# Altium integrated library Microchip PIC24F.IntLib: 529 symbols (part 23 of 32)
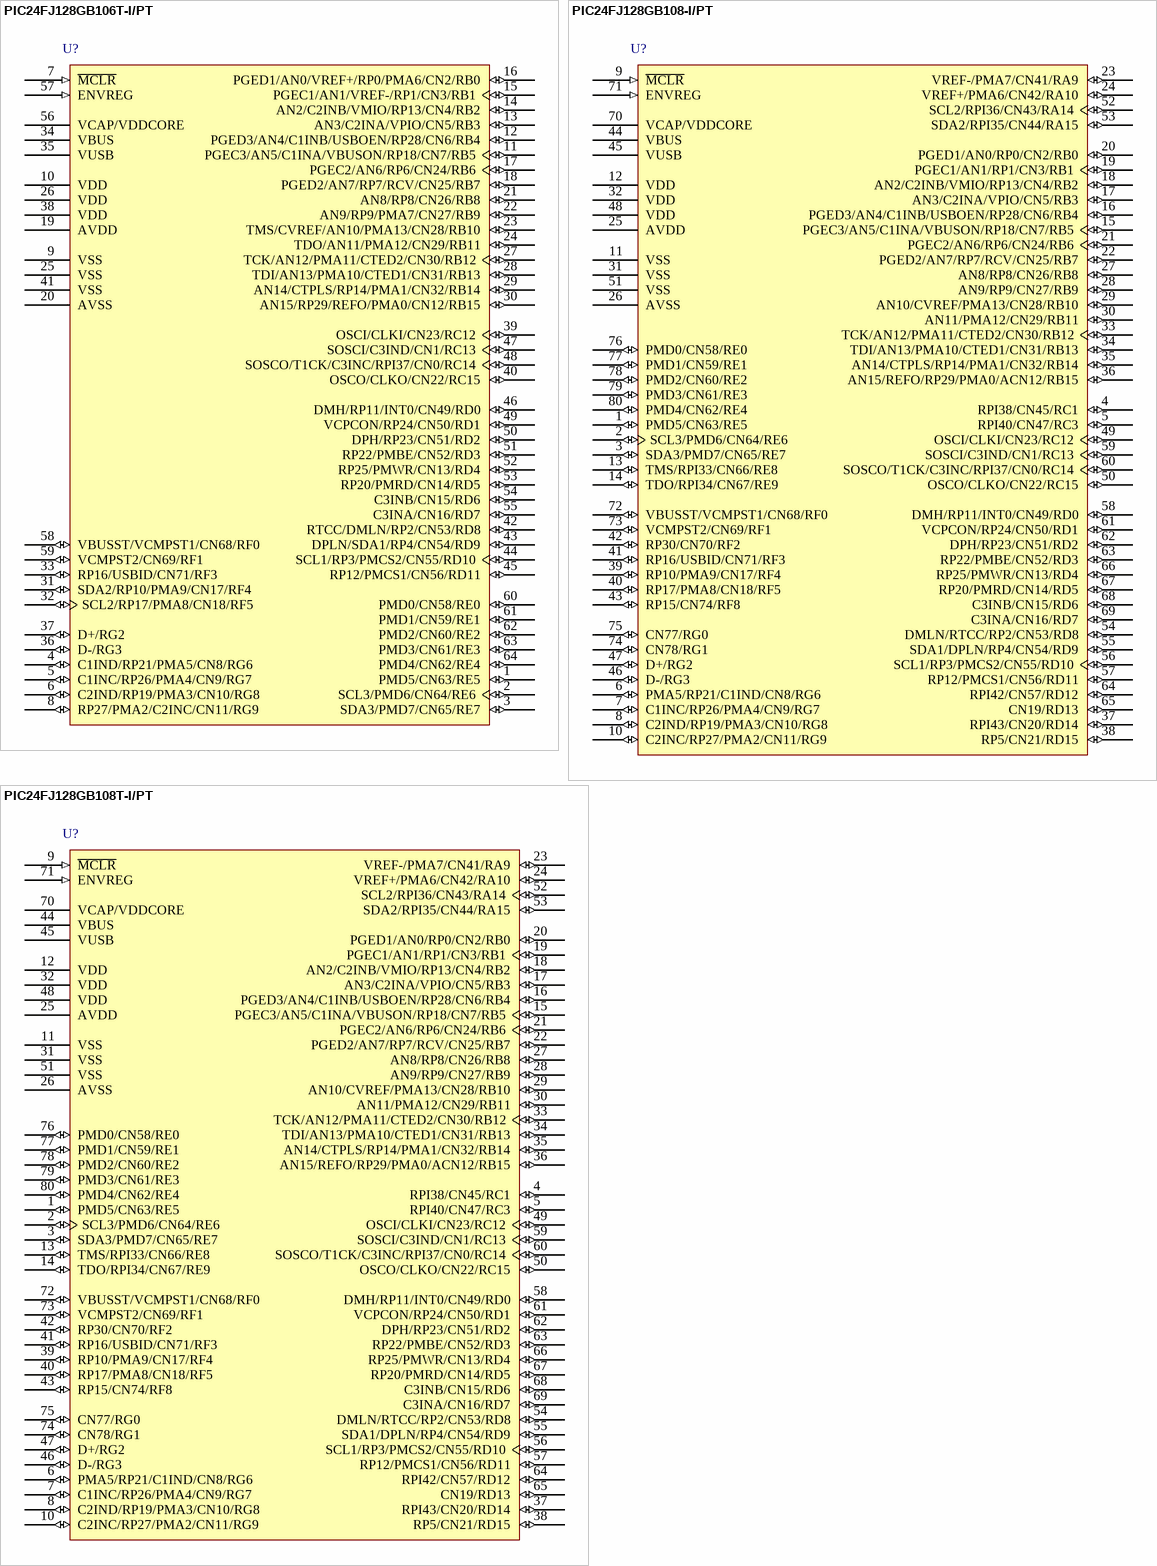
[diagram p144: symbols PIC24FJ128GB106T-I/PT to PIC24FJ128GB108T-I/PT]

## PIC24FJ128GB108-I/PT
designator U?
General Purpose 16-Bit Flash Microcontroller with USB On-The-Go, 128KB Flash, 16KB SRAM, 80-Pin TQFP, Industrial Temperature; Manufacturer: Microchip; PartNumber: PIC24FJ128GB108-I/PT; DatasheetVersion: revC, Dec-2009; PackageVersion: revBB, Aug-2009; PackageReference: TQFP-PT80; PackageDescription: 80-Lead Thin Plastic Quad Flat Pack (PT) - 12x12x1mm Body, 2.00mm [TQFP]; Supplier 1: Digi-Key; Supplier Part Number 1: PIC24FJ128GB108-I/PT-ND; Supplier 2: Farnell; Supplier Part Number 2: 1576851; Supplier 3: Farnell; Supplier Part Number 3: 1576851MPKG; Supplier 4: Newark; Supplier Part Number 4: 11N5809; Supplier 5: Newark; Supplier Part Number 5: 54M5099; Supplier 6: Mouser; Supplier Part Number 6: 579-PIC24128GB108IPT; Mounting Technology: Surface Mount; Code_JEDEC: MS-026; ComponentLink1Description: Manufacturer URL; ComponentLink1URL: http://www.microchip.com/; ComponentLink2Description: Datasheet; ComponentLink2URL: http://ww1.microchip.com/downloads/en/DeviceDoc/39897c.pdf; ComponentLink3Description: Package Specification; ComponentLink3URL: http://www.microchip.com/stellent/groups/techpub_sg/documents/packagingspec/en012702.pdf
footprint TQFP-PT80_N (Thin QFP, 80-Leads, Body 12x12mm, Pitch 0.5mm, IPC Medium Density)
footprint TQFP-PT80_L (Thin QFP, 80-Leads, Body 12x12mm, Pitch 0.5mm, IPC High Density)
footprint TQFP-PT80_M (Thin QFP, 80-Leads, Body 12x12mm, Pitch 0.5mm, IPC Low Density)
pins: 1 PMD5/CN63/RE5 (io), 2 SCL3/PMD6/CN64/RE6 (io), 3 SDA3/PMD7/CN65/RE7 (io), 4 RPI38/CN45/RC1 (io), 5 RPI40/CN47/RC3 (io), 6 PMA5/RP21/C1IND/CN8/RG6 (io), 7 C1INC/RP26/PMA4/CN9/RG7 (io), 8 C2IND/RP19/PMA3/CN10/RG8 (io), 9 ~{MCLR} (in), 10 C2INC/RP27/PMA2/CN11/RG9 (io), 11 VSS (power), 12 VDD (power), 13 TMS/RPI33/CN66/RE8 (io), 14 TDO/RPI34/CN67/RE9 (io), 15 PGEC3/AN5/C1INA/VBUSON/RP18/CN7/RB5 (io), 16 PGED3/AN4/C1INB/USBOEN/RP28/CN6/RB4 (io), 17 AN3/C2INA/VPIO/CN5/RB3 (io), 18 AN2/C2INB/VMIO/RP13/CN4/RB2 (io), 19 PGEC1/AN1/RP1/CN3/RB1 (io), 20 PGED1/AN0/RP0/CN2/RB0 (io), 21 PGEC2/AN6/RP6/CN24/RB6 (io), 22 PGED2/AN7/RP7/RCV/CN25/RB7 (io), 23 VREF-/PMA7/CN41/RA9 (io), 24 VREF+/PMA6/CN42/RA10 (io), 25 AVDD (power), 26 AVSS (power), 27 AN8/RP8/CN26/RB8 (io), 28 AN9/RP9/CN27/RB9 (io), 29 AN10/CVREF/PMA13/CN28/RB10 (io), 30 AN11/PMA12/CN29/RB11 (io), 31 VSS (power), 32 VDD (power), 33 TCK/AN12/PMA11/CTED2/CN30/RB12 (io), 34 TDI/AN13/PMA10/CTED1/CN31/RB13 (io), 35 AN14/CTPLS/RP14/PMA1/CN32/RB14 (io), 36 AN15/REFO/RP29/PMA0/ACN12/RB15 (io), 37 RPI43/CN20/RD14 (io), 38 RP5/CN21/RD15 (io), 39 RP10/PMA9/CN17/RF4 (io), 40 RP17/PMA8/CN18/RF5 (io), 41 RP16/USBID/CN71/RF3 (io), 42 RP30/CN70/RF2 (io), 43 RP15/CN74/RF8 (io), 44 VBUS (power), 45 VUSB (power), 46 D-/RG3 (io), 47 D+/RG2 (io), 48 VDD (power), 49 OSCI/CLKI/CN23/RC12 (io), 50 OSCO/CLKO/CN22/RC15 (io), 51 VSS (power), 52 SCL2/RPI36/CN43/RA14 (io), 53 SDA2/RPI35/CN44/RA15 (io), 54 DMLN/RTCC/RP2/CN53/RD8 (io), 55 SDA1/DPLN/RP4/CN54/RD9 (io), 56 SCL1/RP3/PMCS2/CN55/RD10 (io), 57 RP12/PMCS1/CN56/RD11 (io), 58 DMH/RP11/INT0/CN49/RD0 (io), 59 SOSCI/C3IND/CN1/RC13 (io), 60 SOSCO/T1CK/C3INC/RPI37/CN0/RC14 (io), 61 VCPCON/RP24/CN50/RD1 (io), 62 DPH/RP23/CN51/RD2 (io), 63 RP22/PMBE/CN52/RD3 (io), 64 RPI42/CN57/RD12 (io), 65 CN19/RD13 (io), 66 RP25/PMWR/CN13/RD4 (io), 67 RP20/PMRD/CN14/RD5 (io), 68 C3INB/CN15/RD6 (io), 69 C3INA/CN16/RD7 (io), 70 VCAP/VDDCORE (power), 71 ENVREG (in), 72 VBUSST/VCMPST1/CN68/RF0 (io), 73 VCMPST2/CN69/RF1 (io), 74 CN78/RG1 (io), 75 CN77/RG0 (io), 76 PMD0/CN58/RE0 (io), 77 PMD1/CN59/RE1 (io), 78 PMD2/CN60/RE2 (io), 79 PMD3/CN61/RE3 (io), 80 PMD4/CN62/RE4 (io)

## PIC24FJ128GB108T-I/PT
designator U?
General Purpose 16-Bit Flash Microcontroller with USB On-The-Go, 128KB Flash, 16KB SRAM, 80-Pin TQFP, Industrial Temperature, Tape and Reel; Manufacturer: Microchip; PartNumber: PIC24FJ128GB108T-I/PT; DatasheetVersion: revC, Dec-2009; PackageVersion: revBB, Aug-2009; PackageReference: TQFP-PT80; PackageDescription: 80-Lead Thin Plastic Quad Flat Pack (PT) - 12x12x1mm Body, 2.00mm [TQFP]; Supplier 1: Digi-Key; Supplier Part Number 1: PIC24FJ128GB108T-I/PTTR-ND; Supplier 2: Mouser; Supplier Part Number 2: 579-PIC2128GB108TIPT; Mounting Technology: Surface Mount; Code_JEDEC: MS-026; ComponentLink1Description: Manufacturer URL; ComponentLink1URL: http://www.microchip.com/; ComponentLink2Description: Datasheet; ComponentLink2URL: http://ww1.microchip.com/downloads/en/DeviceDoc/39897c.pdf; ComponentLink3Description: Package Specification; ComponentLink3URL: http://www.microchip.com/stellent/groups/techpub_sg/documents/packagingspec/en012702.pdf
footprint TQFP-PT80_N (Thin QFP, 80-Leads, Body 12x12mm, Pitch 0.5mm, IPC Medium Density)
footprint TQFP-PT80_L (Thin QFP, 80-Leads, Body 12x12mm, Pitch 0.5mm, IPC High Density)
footprint TQFP-PT80_M (Thin QFP, 80-Leads, Body 12x12mm, Pitch 0.5mm, IPC Low Density)
pins: 1 PMD5/CN63/RE5 (io), 2 SCL3/PMD6/CN64/RE6 (io), 3 SDA3/PMD7/CN65/RE7 (io), 4 RPI38/CN45/RC1 (io), 5 RPI40/CN47/RC3 (io), 6 PMA5/RP21/C1IND/CN8/RG6 (io), 7 C1INC/RP26/PMA4/CN9/RG7 (io), 8 C2IND/RP19/PMA3/CN10/RG8 (io), 9 ~{MCLR} (in), 10 C2INC/RP27/PMA2/CN11/RG9 (io), 11 VSS (power), 12 VDD (power), 13 TMS/RPI33/CN66/RE8 (io), 14 TDO/RPI34/CN67/RE9 (io), 15 PGEC3/AN5/C1INA/VBUSON/RP18/CN7/RB5 (io), 16 PGED3/AN4/C1INB/USBOEN/RP28/CN6/RB4 (io), 17 AN3/C2INA/VPIO/CN5/RB3 (io), 18 AN2/C2INB/VMIO/RP13/CN4/RB2 (io), 19 PGEC1/AN1/RP1/CN3/RB1 (io), 20 PGED1/AN0/RP0/CN2/RB0 (io), 21 PGEC2/AN6/RP6/CN24/RB6 (io), 22 PGED2/AN7/RP7/RCV/CN25/RB7 (io), 23 VREF-/PMA7/CN41/RA9 (io), 24 VREF+/PMA6/CN42/RA10 (io), 25 AVDD (power), 26 AVSS (power), 27 AN8/RP8/CN26/RB8 (io), 28 AN9/RP9/CN27/RB9 (io), 29 AN10/CVREF/PMA13/CN28/RB10 (io), 30 AN11/PMA12/CN29/RB11 (io), 31 VSS (power), 32 VDD (power), 33 TCK/AN12/PMA11/CTED2/CN30/RB12 (io), 34 TDI/AN13/PMA10/CTED1/CN31/RB13 (io), 35 AN14/CTPLS/RP14/PMA1/CN32/RB14 (io), 36 AN15/REFO/RP29/PMA0/ACN12/RB15 (io), 37 RPI43/CN20/RD14 (io), 38 RP5/CN21/RD15 (io), 39 RP10/PMA9/CN17/RF4 (io), 40 RP17/PMA8/CN18/RF5 (io), 41 RP16/USBID/CN71/RF3 (io), 42 RP30/CN70/RF2 (io), 43 RP15/CN74/RF8 (io), 44 VBUS (power), 45 VUSB (power), 46 D-/RG3 (io), 47 D+/RG2 (io), 48 VDD (power), 49 OSCI/CLKI/CN23/RC12 (io), 50 OSCO/CLKO/CN22/RC15 (io), 51 VSS (power), 52 SCL2/RPI36/CN43/RA14 (io), 53 SDA2/RPI35/CN44/RA15 (io), 54 DMLN/RTCC/RP2/CN53/RD8 (io), 55 SDA1/DPLN/RP4/CN54/RD9 (io), 56 SCL1/RP3/PMCS2/CN55/RD10 (io), 57 RP12/PMCS1/CN56/RD11 (io), 58 DMH/RP11/INT0/CN49/RD0 (io), 59 SOSCI/C3IND/CN1/RC13 (io), 60 SOSCO/T1CK/C3INC/RPI37/CN0/RC14 (io), 61 VCPCON/RP24/CN50/RD1 (io), 62 DPH/RP23/CN51/RD2 (io), 63 RP22/PMBE/CN52/RD3 (io), 64 RPI42/CN57/RD12 (io), 65 CN19/RD13 (io), 66 RP25/PMWR/CN13/RD4 (io), 67 RP20/PMRD/CN14/RD5 (io), 68 C3INB/CN15/RD6 (io), 69 C3INA/CN16/RD7 (io), 70 VCAP/VDDCORE (power), 71 ENVREG (in), 72 VBUSST/VCMPST1/CN68/RF0 (io), 73 VCMPST2/CN69/RF1 (io), 74 CN78/RG1 (io), 75 CN77/RG0 (io), 76 PMD0/CN58/RE0 (io), 77 PMD1/CN59/RE1 (io), 78 PMD2/CN60/RE2 (io), 79 PMD3/CN61/RE3 (io), 80 PMD4/CN62/RE4 (io)

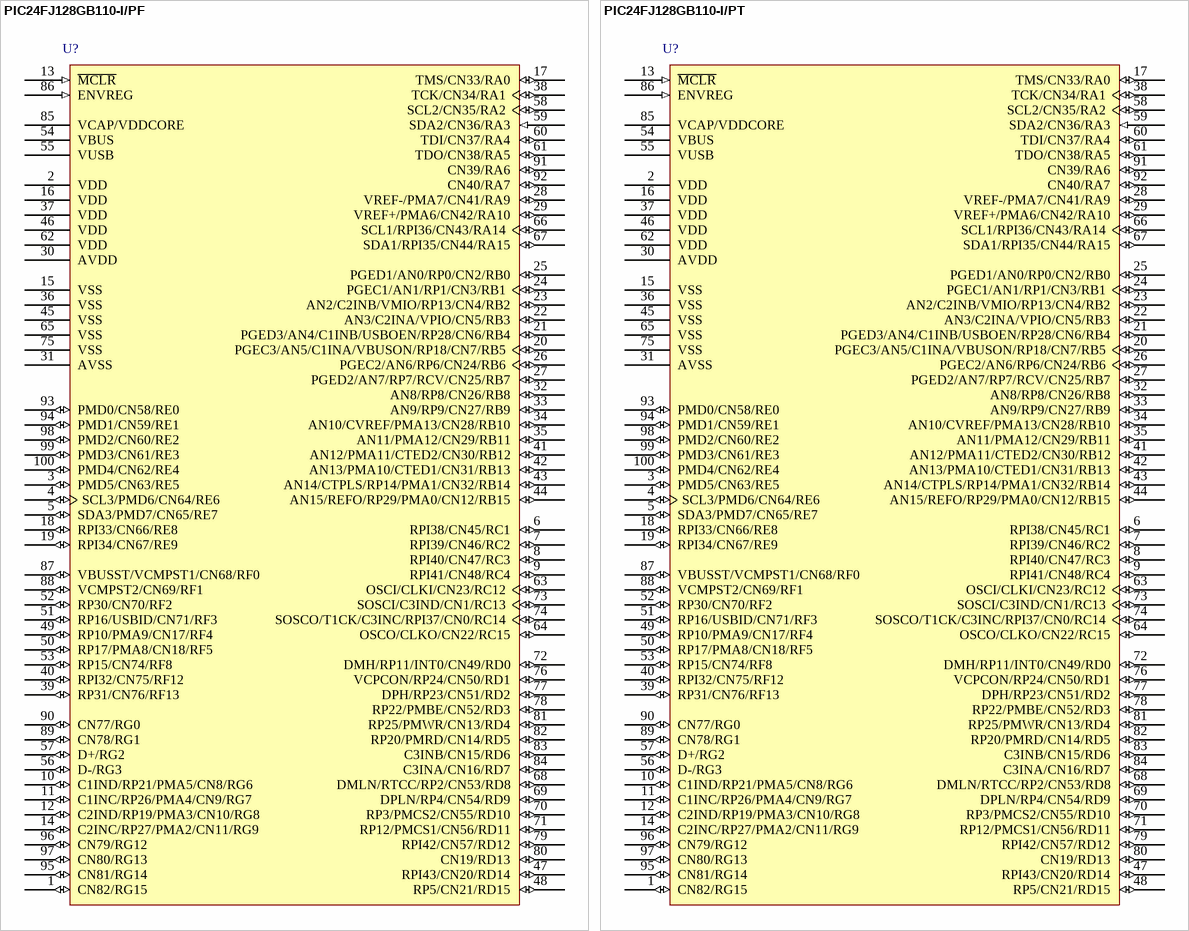
[diagram p81: symbols PIC24FJ128GB110-I/PF to PIC24FJ128GB110-I/PT]

## PIC24FJ128GB110-I/PF
designator U?
General Purpose 16-Bit Flash Microcontroller with USB On-The-Go, 128KB Flash, 16KB SRAM, 100-Pin TQFP (14x14x1 mm), Industrial Temperature; Manufacturer: Microchip; PartNumber: PIC24FJ128GB110-I/PF; DatasheetVersion: revC, Dec-2009; PackageVersion: revBB, Aug-2009; PackageReference: TQFP-PF100; PackageDescription: 100-Lead Thin Plastic Quad Flat Pack (PF) - 14x14x1mm Body, 2.00mm [TQFP]; Supplier 1: Digi-Key; Supplier Part Number 1: PIC24FJ128GB110-I/PF-ND; Supplier 2: Farnell; Supplier Part Number 2: 1576852MPKG; Supplier 3: Farnell; Supplier Part Number 3: 1576852; Supplier 4: Newark; Supplier Part Number 4: 11N5810; Supplier 5: Mouser; Supplier Part Number 5: 579-PIC24128GB110IPF; Mounting Technology: Surface Mount; ComponentLink1Description: Manufacturer URL; ComponentLink1URL: http://www.microchip.com/; ComponentLink2Description: Datasheet; ComponentLink2URL: http://ww1.microchip.com/downloads/en/DeviceDoc/39897c.pdf; ComponentLink3Description: Package Specification; ComponentLink3URL: http://www.microchip.com/stellent/groups/techpub_sg/documents/packagingspec/en012702.pdf
footprint TQFP-PF100_N (Thin QFP, 100-Leads, Body 14x14mm, Pitch 0.5mm, IPC Medium Density)
footprint TQFP-PF100_L (Thin QFP, 100-Leads, Body 14x14mm, Pitch 0.5mm, IPC High Density)
footprint TQFP-PF100_M (Thin QFP, 100-Leads, Body 14x14mm, Pitch 0.5mm, IPC Low Density)
pins: 1 CN82/RG15 (io), 2 VDD (power), 3 PMD5/CN63/RE5 (io), 4 SCL3/PMD6/CN64/RE6 (io), 5 SDA3/PMD7/CN65/RE7 (io), 6 RPI38/CN45/RC1 (io), 7 RPI39/CN46/RC2 (io), 8 RPI40/CN47/RC3 (io), 9 RPI41/CN48/RC4 (io), 10 C1IND/RP21/PMA5/CN8/RG6 (io), 11 C1INC/RP26/PMA4/CN9/RG7 (io), 12 C2IND/RP19/PMA3/CN10/RG8 (io), 13 ~{MCLR} (in), 14 C2INC/RP27/PMA2/CN11/RG9 (io), 15 VSS (power), 16 VDD (power), 17 TMS/CN33/RA0 (io), 18 RPI33/CN66/RE8 (io), 19 RPI34/CN67/RE9 (io), 20 PGEC3/AN5/C1INA/VBUSON/RP18/CN7/RB5 (io), 21 PGED3/AN4/C1INB/USBOEN/RP28/CN6/RB4 (io), 22 AN3/C2INA/VPIO/CN5/RB3 (io), 23 AN2/C2INB/VMIO/RP13/CN4/RB2 (io), 24 PGEC1/AN1/RP1/CN3/RB1 (io), 25 PGED1/AN0/RP0/CN2/RB0 (io), 26 PGEC2/AN6/RP6/CN24/RB6 (io), 27 PGED2/AN7/RP7/RCV/CN25/RB7 (io), 28 VREF-/PMA7/CN41/RA9 (io), 29 VREF+/PMA6/CN42/RA10 (io), 30 AVDD (power), 31 AVSS (power), 32 AN8/RP8/CN26/RB8 (io), 33 AN9/RP9/CN27/RB9 (io), 34 AN10/CVREF/PMA13/CN28/RB10 (io), 35 AN11/PMA12/CN29/RB11 (io), 36 VSS (power), 37 VDD (power), 38 TCK/CN34/RA1 (io), 39 RP31/CN76/RF13 (io), 40 RPI32/CN75/RF12 (io), 41 AN12/PMA11/CTED2/CN30/RB12 (io), 42 AN13/PMA10/CTED1/CN31/RB13 (io), 43 AN14/CTPLS/RP14/PMA1/CN32/RB14 (io), 44 AN15/REFO/RP29/PMA0/CN12/RB15 (io), 45 VSS (power), 46 VDD (power), 47 RPI43/CN20/RD14 (io), 48 RP5/CN21/RD15 (io), 49 RP10/PMA9/CN17/RF4 (io), 50 RP17/PMA8/CN18/RF5 (io), 51 RP16/USBID/CN71/RF3 (io), 52 RP30/CN70/RF2 (io), 53 RP15/CN74/RF8 (io), 54 VBUS (power), 55 VUSB (power), 56 D-/RG3 (io), 57 D+/RG2 (io), 58 SCL2/CN35/RA2 (io), 59 SDA2/CN36/RA3 (in), 60 TDI/CN37/RA4 (io), 61 TDO/CN38/RA5 (io), 62 VDD (power), 63 OSCI/CLKI/CN23/RC12 (io), 64 OSCO/CLKO/CN22/RC15 (io), 65 VSS (power), 66 SCL1/RPI36/CN43/RA14 (io), 67 SDA1/RPI35/CN44/RA15 (io), 68 DMLN/RTCC/RP2/CN53/RD8 (io), 69 DPLN/RP4/CN54/RD9 (io), 70 RP3/PMCS2/CN55/RD10 (io), 71 RP12/PMCS1/CN56/RD11 (io), 72 DMH/RP11/INT0/CN49/RD0 (io), 73 SOSCI/C3IND/CN1/RC13 (io), 74 SOSCO/T1CK/C3INC/RPI37/CN0/RC14 (io), 75 VSS (power), 76 VCPCON/RP24/CN50/RD1 (io), 77 DPH/RP23/CN51/RD2 (io), 78 RP22/PMBE/CN52/RD3 (io), 79 RPI42/CN57/RD12 (io), 80 CN19/RD13 (io), 81 RP25/PMWR/CN13/RD4 (io), 82 RP20/PMRD/CN14/RD5 (io), 83 C3INB/CN15/RD6 (io), 84 C3INA/CN16/RD7 (io), 85 VCAP/VDDCORE (power), 86 ENVREG (in), 87 VBUSST/VCMPST1/CN68/RF0 (io), 88 VCMPST2/CN69/RF1 (io), 89 CN78/RG1 (io), 90 CN77/RG0 (io), 91 CN39/RA6 (io), 92 CN40/RA7 (io), 93 PMD0/CN58/RE0 (io), 94 PMD1/CN59/RE1 (io), 95 CN81/RG14 (io), 96 CN79/RG12 (io), 97 CN80/RG13 (io), 98 PMD2/CN60/RE2 (io), 99 PMD3/CN61/RE3 (io), 100 PMD4/CN62/RE4 (io)

## PIC24FJ128GB110-I/PT
designator U?
General Purpose 16-Bit Flash Microcontroller with USB On-The-Go, 128KB Flash, 16KB SRAM, 100-Pin TQFP (12x12x1 mm), Industrial Temperature; Manufacturer: Microchip; PartNumber: PIC24FJ128GB110-I/PT; DatasheetVersion: revC, Dec-2009; PackageVersion: revBB, Aug-2009; PackageReference: TQFP-PT100; PackageDescription: 100-Lead Plastic Thin Quad Flatpack (PT) - 12x12x1mm Body, 2.00mm [TQFP]; Supplier 1: Digi-Key; Supplier Part Number 1: PIC24FJ128GB110-I/PT-ND; Supplier 2: Farnell; Supplier Part Number 2: 1576853; Supplier 3: Newark; Supplier Part Number 3: 54M5102; Supplier 4: Mouser; Supplier Part Number 4: 579-PIC24128GB110IPT; Mounting Technology: Surface Mount; ComponentLink1Description: Manufacturer URL; ComponentLink1URL: http://www.microchip.com/; ComponentLink2Description: Datasheet; ComponentLink2URL: http://ww1.microchip.com/downloads/en/DeviceDoc/39897c.pdf; ComponentLink3Description: Package Specification; ComponentLink3URL: http://www.microchip.com/stellent/groups/techpub_sg/documents/packagingspec/en012702.pdf
footprint TQFP-PT100_N (Thin QFP, 100-Leads, Body 12x12mm, Pitch 0.4mm, IPC Medium Density)
footprint TQFP-PT100_L (Thin QFP, 100-Leads, Body 12x12mm, Pitch 0.4mm, IPC High Density)
footprint TQFP-PT100_M (Thin QFP, 100-Leads, Body 12x12mm, Pitch 0.4mm, IPC Low Density)
pins: 1 CN82/RG15 (io), 2 VDD (power), 3 PMD5/CN63/RE5 (io), 4 SCL3/PMD6/CN64/RE6 (io), 5 SDA3/PMD7/CN65/RE7 (io), 6 RPI38/CN45/RC1 (io), 7 RPI39/CN46/RC2 (io), 8 RPI40/CN47/RC3 (io), 9 RPI41/CN48/RC4 (io), 10 C1IND/RP21/PMA5/CN8/RG6 (io), 11 C1INC/RP26/PMA4/CN9/RG7 (io), 12 C2IND/RP19/PMA3/CN10/RG8 (io), 13 ~{MCLR} (in), 14 C2INC/RP27/PMA2/CN11/RG9 (io), 15 VSS (power), 16 VDD (power), 17 TMS/CN33/RA0 (io), 18 RPI33/CN66/RE8 (io), 19 RPI34/CN67/RE9 (io), 20 PGEC3/AN5/C1INA/VBUSON/RP18/CN7/RB5 (io), 21 PGED3/AN4/C1INB/USBOEN/RP28/CN6/RB4 (io), 22 AN3/C2INA/VPIO/CN5/RB3 (io), 23 AN2/C2INB/VMIO/RP13/CN4/RB2 (io), 24 PGEC1/AN1/RP1/CN3/RB1 (io), 25 PGED1/AN0/RP0/CN2/RB0 (io), 26 PGEC2/AN6/RP6/CN24/RB6 (io), 27 PGED2/AN7/RP7/RCV/CN25/RB7 (io), 28 VREF-/PMA7/CN41/RA9 (io), 29 VREF+/PMA6/CN42/RA10 (io), 30 AVDD (power), 31 AVSS (power), 32 AN8/RP8/CN26/RB8 (io), 33 AN9/RP9/CN27/RB9 (io), 34 AN10/CVREF/PMA13/CN28/RB10 (io), 35 AN11/PMA12/CN29/RB11 (io), 36 VSS (power), 37 VDD (power), 38 TCK/CN34/RA1 (io), 39 RP31/CN76/RF13 (io), 40 RPI32/CN75/RF12 (io), 41 AN12/PMA11/CTED2/CN30/RB12 (io), 42 AN13/PMA10/CTED1/CN31/RB13 (io), 43 AN14/CTPLS/RP14/PMA1/CN32/RB14 (io), 44 AN15/REFO/RP29/PMA0/CN12/RB15 (io), 45 VSS (power), 46 VDD (power), 47 RPI43/CN20/RD14 (io), 48 RP5/CN21/RD15 (io), 49 RP10/PMA9/CN17/RF4 (io), 50 RP17/PMA8/CN18/RF5 (io), 51 RP16/USBID/CN71/RF3 (io), 52 RP30/CN70/RF2 (io), 53 RP15/CN74/RF8 (io), 54 VBUS (power), 55 VUSB (power), 56 D-/RG3 (io), 57 D+/RG2 (io), 58 SCL2/CN35/RA2 (io), 59 SDA2/CN36/RA3 (in), 60 TDI/CN37/RA4 (io), 61 TDO/CN38/RA5 (io), 62 VDD (power), 63 OSCI/CLKI/CN23/RC12 (io), 64 OSCO/CLKO/CN22/RC15 (io), 65 VSS (power), 66 SCL1/RPI36/CN43/RA14 (io), 67 SDA1/RPI35/CN44/RA15 (io), 68 DMLN/RTCC/RP2/CN53/RD8 (io), 69 DPLN/RP4/CN54/RD9 (io), 70 RP3/PMCS2/CN55/RD10 (io), 71 RP12/PMCS1/CN56/RD11 (io), 72 DMH/RP11/INT0/CN49/RD0 (io), 73 SOSCI/C3IND/CN1/RC13 (io), 74 SOSCO/T1CK/C3INC/RPI37/CN0/RC14 (io), 75 VSS (power), 76 VCPCON/RP24/CN50/RD1 (io), 77 DPH/RP23/CN51/RD2 (io), 78 RP22/PMBE/CN52/RD3 (io), 79 RPI42/CN57/RD12 (io), 80 CN19/RD13 (io), 81 RP25/PMWR/CN13/RD4 (io), 82 RP20/PMRD/CN14/RD5 (io), 83 C3INB/CN15/RD6 (io), 84 C3INA/CN16/RD7 (io), 85 VCAP/VDDCORE (power), 86 ENVREG (in), 87 VBUSST/VCMPST1/CN68/RF0 (io), 88 VCMPST2/CN69/RF1 (io), 89 CN78/RG1 (io), 90 CN77/RG0 (io), 91 CN39/RA6 (io), 92 CN40/RA7 (io), 93 PMD0/CN58/RE0 (io), 94 PMD1/CN59/RE1 (io), 95 CN81/RG14 (io), 96 CN79/RG12 (io), 97 CN80/RG13 (io), 98 PMD2/CN60/RE2 (io), 99 PMD3/CN61/RE3 (io), 100 PMD4/CN62/RE4 (io)

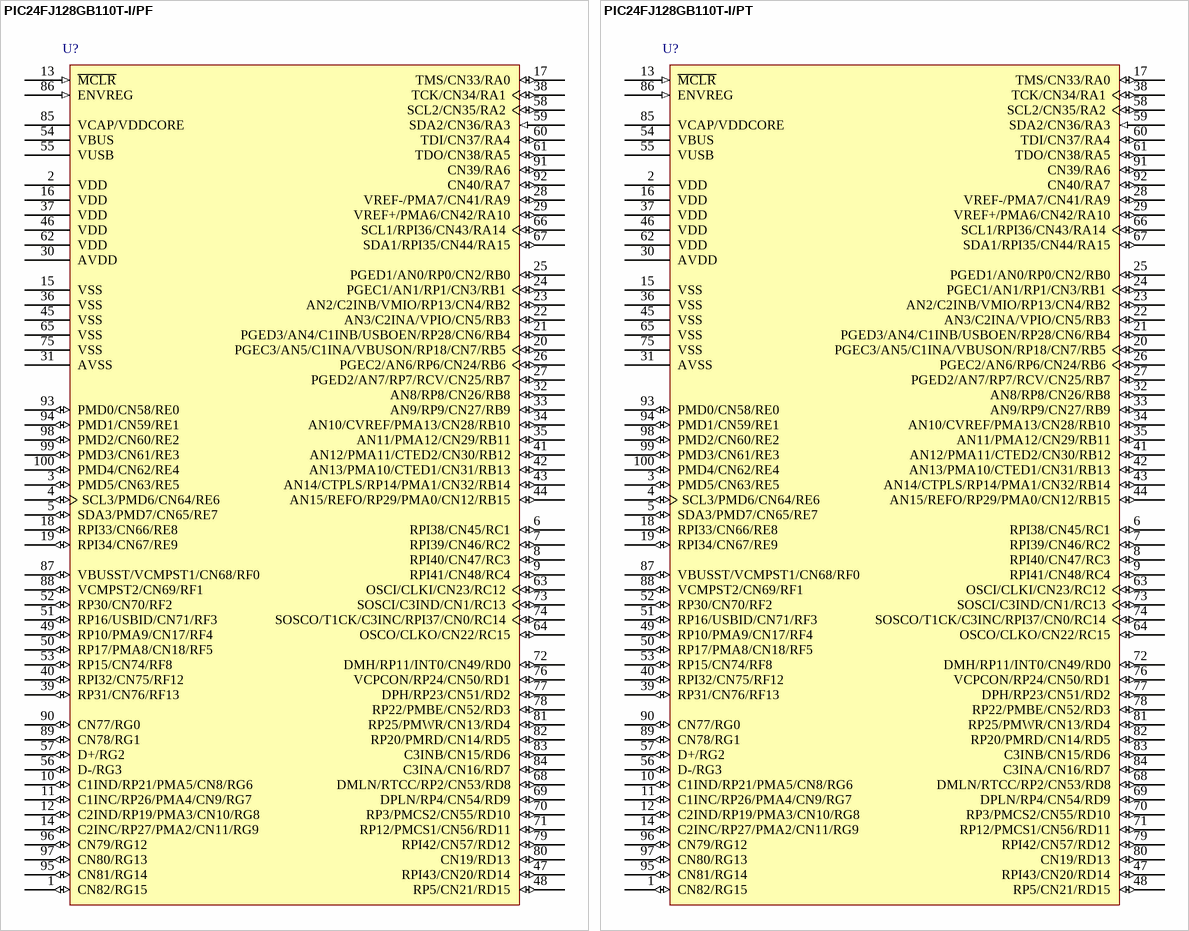
[diagram p82: symbols PIC24FJ128GB110T-I/PF to PIC24FJ128GB110T-I/PT]

## PIC24FJ128GB110T-I/PF
designator U?
General Purpose 16-Bit Flash Microcontroller with USB On-The-Go, 128KB Flash, 16KB SRAM, 100-Pin TQFP (14x14x1 mm), Industrial Temperature, Tape and Reel; Manufacturer: Microchip; PartNumber: PIC24FJ128GB110T-I/PF; DatasheetVersion: revC, Dec-2009; PackageVersion: revBB, Aug-2009; PackageReference: TQFP-PF100; PackageDescription: 100-Lead Thin Plastic Quad Flat Pack (PF) - 14x14x1mm Body, 2.00mm [TQFP]; Supplier 1: Digi-Key; Supplier Part Number 1: PIC24FJ128GB110T-I/PFTR-ND; Supplier 2: Mouser; Supplier Part Number 2: 579-PIC2128GB110TIPF; Mounting Technology: Surface Mount; ComponentLink1Description: Manufacturer URL; ComponentLink1URL: http://www.microchip.com/; ComponentLink2Description: Datasheet; ComponentLink2URL: http://ww1.microchip.com/downloads/en/DeviceDoc/39897c.pdf; ComponentLink3Description: Package Specification; ComponentLink3URL: http://www.microchip.com/stellent/groups/techpub_sg/documents/packagingspec/en012702.pdf
footprint TQFP-PF100_N (Thin QFP, 100-Leads, Body 14x14mm, Pitch 0.5mm, IPC Medium Density)
footprint TQFP-PF100_L (Thin QFP, 100-Leads, Body 14x14mm, Pitch 0.5mm, IPC High Density)
footprint TQFP-PF100_M (Thin QFP, 100-Leads, Body 14x14mm, Pitch 0.5mm, IPC Low Density)
pins: 1 CN82/RG15 (io), 2 VDD (power), 3 PMD5/CN63/RE5 (io), 4 SCL3/PMD6/CN64/RE6 (io), 5 SDA3/PMD7/CN65/RE7 (io), 6 RPI38/CN45/RC1 (io), 7 RPI39/CN46/RC2 (io), 8 RPI40/CN47/RC3 (io), 9 RPI41/CN48/RC4 (io), 10 C1IND/RP21/PMA5/CN8/RG6 (io), 11 C1INC/RP26/PMA4/CN9/RG7 (io), 12 C2IND/RP19/PMA3/CN10/RG8 (io), 13 ~{MCLR} (in), 14 C2INC/RP27/PMA2/CN11/RG9 (io), 15 VSS (power), 16 VDD (power), 17 TMS/CN33/RA0 (io), 18 RPI33/CN66/RE8 (io), 19 RPI34/CN67/RE9 (io), 20 PGEC3/AN5/C1INA/VBUSON/RP18/CN7/RB5 (io), 21 PGED3/AN4/C1INB/USBOEN/RP28/CN6/RB4 (io), 22 AN3/C2INA/VPIO/CN5/RB3 (io), 23 AN2/C2INB/VMIO/RP13/CN4/RB2 (io), 24 PGEC1/AN1/RP1/CN3/RB1 (io), 25 PGED1/AN0/RP0/CN2/RB0 (io), 26 PGEC2/AN6/RP6/CN24/RB6 (io), 27 PGED2/AN7/RP7/RCV/CN25/RB7 (io), 28 VREF-/PMA7/CN41/RA9 (io), 29 VREF+/PMA6/CN42/RA10 (io), 30 AVDD (power), 31 AVSS (power), 32 AN8/RP8/CN26/RB8 (io), 33 AN9/RP9/CN27/RB9 (io), 34 AN10/CVREF/PMA13/CN28/RB10 (io), 35 AN11/PMA12/CN29/RB11 (io), 36 VSS (power), 37 VDD (power), 38 TCK/CN34/RA1 (io), 39 RP31/CN76/RF13 (io), 40 RPI32/CN75/RF12 (io), 41 AN12/PMA11/CTED2/CN30/RB12 (io), 42 AN13/PMA10/CTED1/CN31/RB13 (io), 43 AN14/CTPLS/RP14/PMA1/CN32/RB14 (io), 44 AN15/REFO/RP29/PMA0/CN12/RB15 (io), 45 VSS (power), 46 VDD (power), 47 RPI43/CN20/RD14 (io), 48 RP5/CN21/RD15 (io), 49 RP10/PMA9/CN17/RF4 (io), 50 RP17/PMA8/CN18/RF5 (io), 51 RP16/USBID/CN71/RF3 (io), 52 RP30/CN70/RF2 (io), 53 RP15/CN74/RF8 (io), 54 VBUS (power), 55 VUSB (power), 56 D-/RG3 (io), 57 D+/RG2 (io), 58 SCL2/CN35/RA2 (io), 59 SDA2/CN36/RA3 (in), 60 TDI/CN37/RA4 (io), 61 TDO/CN38/RA5 (io), 62 VDD (power), 63 OSCI/CLKI/CN23/RC12 (io), 64 OSCO/CLKO/CN22/RC15 (io), 65 VSS (power), 66 SCL1/RPI36/CN43/RA14 (io), 67 SDA1/RPI35/CN44/RA15 (io), 68 DMLN/RTCC/RP2/CN53/RD8 (io), 69 DPLN/RP4/CN54/RD9 (io), 70 RP3/PMCS2/CN55/RD10 (io), 71 RP12/PMCS1/CN56/RD11 (io), 72 DMH/RP11/INT0/CN49/RD0 (io), 73 SOSCI/C3IND/CN1/RC13 (io), 74 SOSCO/T1CK/C3INC/RPI37/CN0/RC14 (io), 75 VSS (power), 76 VCPCON/RP24/CN50/RD1 (io), 77 DPH/RP23/CN51/RD2 (io), 78 RP22/PMBE/CN52/RD3 (io), 79 RPI42/CN57/RD12 (io), 80 CN19/RD13 (io), 81 RP25/PMWR/CN13/RD4 (io), 82 RP20/PMRD/CN14/RD5 (io), 83 C3INB/CN15/RD6 (io), 84 C3INA/CN16/RD7 (io), 85 VCAP/VDDCORE (power), 86 ENVREG (in), 87 VBUSST/VCMPST1/CN68/RF0 (io), 88 VCMPST2/CN69/RF1 (io), 89 CN78/RG1 (io), 90 CN77/RG0 (io), 91 CN39/RA6 (io), 92 CN40/RA7 (io), 93 PMD0/CN58/RE0 (io), 94 PMD1/CN59/RE1 (io), 95 CN81/RG14 (io), 96 CN79/RG12 (io), 97 CN80/RG13 (io), 98 PMD2/CN60/RE2 (io), 99 PMD3/CN61/RE3 (io), 100 PMD4/CN62/RE4 (io)

## PIC24FJ128GB110T-I/PT
designator U?
General Purpose 16-Bit Flash Microcontroller with USB On-The-Go, 128KB Flash, 16KB SRAM, 100-Pin TQFP (12x12x1 mm), Industrial Temperature, Tape and Reel; Manufacturer: Microchip; PartNumber: PIC24FJ128GB110T-I/PT; DatasheetVersion: revC, Dec-2009; PackageVersion: revBB, Aug-2009; PackageReference: TQFP-PT100; PackageDescription: 100-Lead Plastic Thin Quad Flatpack (PT) - 12x12x1mm Body, 2.00mm [TQFP]; Supplier 1: Digi-Key; Supplier Part Number 1: PIC24FJ128GB110T-I/PTTR-ND; Supplier 2: Mouser; Supplier Part Number 2: 579-PIC2128GB110TIPT; Mounting Technology: Surface Mount; ComponentLink1Description: Manufacturer URL; ComponentLink1URL: http://www.microchip.com/; ComponentLink2Description: Datasheet; ComponentLink2URL: http://ww1.microchip.com/downloads/en/DeviceDoc/39897c.pdf; ComponentLink3Description: Package Specification; ComponentLink3URL: http://www.microchip.com/stellent/groups/techpub_sg/documents/packagingspec/en012702.pdf
footprint TQFP-PT100_N (Thin QFP, 100-Leads, Body 12x12mm, Pitch 0.4mm, IPC Medium Density)
footprint TQFP-PT100_L (Thin QFP, 100-Leads, Body 12x12mm, Pitch 0.4mm, IPC High Density)
footprint TQFP-PT100_M (Thin QFP, 100-Leads, Body 12x12mm, Pitch 0.4mm, IPC Low Density)
pins: 1 CN82/RG15 (io), 2 VDD (power), 3 PMD5/CN63/RE5 (io), 4 SCL3/PMD6/CN64/RE6 (io), 5 SDA3/PMD7/CN65/RE7 (io), 6 RPI38/CN45/RC1 (io), 7 RPI39/CN46/RC2 (io), 8 RPI40/CN47/RC3 (io), 9 RPI41/CN48/RC4 (io), 10 C1IND/RP21/PMA5/CN8/RG6 (io), 11 C1INC/RP26/PMA4/CN9/RG7 (io), 12 C2IND/RP19/PMA3/CN10/RG8 (io), 13 ~{MCLR} (in), 14 C2INC/RP27/PMA2/CN11/RG9 (io), 15 VSS (power), 16 VDD (power), 17 TMS/CN33/RA0 (io), 18 RPI33/CN66/RE8 (io), 19 RPI34/CN67/RE9 (io), 20 PGEC3/AN5/C1INA/VBUSON/RP18/CN7/RB5 (io), 21 PGED3/AN4/C1INB/USBOEN/RP28/CN6/RB4 (io), 22 AN3/C2INA/VPIO/CN5/RB3 (io), 23 AN2/C2INB/VMIO/RP13/CN4/RB2 (io), 24 PGEC1/AN1/RP1/CN3/RB1 (io), 25 PGED1/AN0/RP0/CN2/RB0 (io), 26 PGEC2/AN6/RP6/CN24/RB6 (io), 27 PGED2/AN7/RP7/RCV/CN25/RB7 (io), 28 VREF-/PMA7/CN41/RA9 (io), 29 VREF+/PMA6/CN42/RA10 (io), 30 AVDD (power), 31 AVSS (power), 32 AN8/RP8/CN26/RB8 (io), 33 AN9/RP9/CN27/RB9 (io), 34 AN10/CVREF/PMA13/CN28/RB10 (io), 35 AN11/PMA12/CN29/RB11 (io), 36 VSS (power), 37 VDD (power), 38 TCK/CN34/RA1 (io), 39 RP31/CN76/RF13 (io), 40 RPI32/CN75/RF12 (io), 41 AN12/PMA11/CTED2/CN30/RB12 (io), 42 AN13/PMA10/CTED1/CN31/RB13 (io), 43 AN14/CTPLS/RP14/PMA1/CN32/RB14 (io), 44 AN15/REFO/RP29/PMA0/CN12/RB15 (io), 45 VSS (power), 46 VDD (power), 47 RPI43/CN20/RD14 (io), 48 RP5/CN21/RD15 (io), 49 RP10/PMA9/CN17/RF4 (io), 50 RP17/PMA8/CN18/RF5 (io), 51 RP16/USBID/CN71/RF3 (io), 52 RP30/CN70/RF2 (io), 53 RP15/CN74/RF8 (io), 54 VBUS (power), 55 VUSB (power), 56 D-/RG3 (io), 57 D+/RG2 (io), 58 SCL2/CN35/RA2 (io), 59 SDA2/CN36/RA3 (in), 60 TDI/CN37/RA4 (io), 61 TDO/CN38/RA5 (io), 62 VDD (power), 63 OSCI/CLKI/CN23/RC12 (io), 64 OSCO/CLKO/CN22/RC15 (io), 65 VSS (power), 66 SCL1/RPI36/CN43/RA14 (io), 67 SDA1/RPI35/CN44/RA15 (io), 68 DMLN/RTCC/RP2/CN53/RD8 (io), 69 DPLN/RP4/CN54/RD9 (io), 70 RP3/PMCS2/CN55/RD10 (io), 71 RP12/PMCS1/CN56/RD11 (io), 72 DMH/RP11/INT0/CN49/RD0 (io), 73 SOSCI/C3IND/CN1/RC13 (io), 74 SOSCO/T1CK/C3INC/RPI37/CN0/RC14 (io), 75 VSS (power), 76 VCPCON/RP24/CN50/RD1 (io), 77 DPH/RP23/CN51/RD2 (io), 78 RP22/PMBE/CN52/RD3 (io), 79 RPI42/CN57/RD12 (io), 80 CN19/RD13 (io), 81 RP25/PMWR/CN13/RD4 (io), 82 RP20/PMRD/CN14/RD5 (io), 83 C3INB/CN15/RD6 (io), 84 C3INA/CN16/RD7 (io), 85 VCAP/VDDCORE (power), 86 ENVREG (in), 87 VBUSST/VCMPST1/CN68/RF0 (io), 88 VCMPST2/CN69/RF1 (io), 89 CN78/RG1 (io), 90 CN77/RG0 (io), 91 CN39/RA6 (io), 92 CN40/RA7 (io), 93 PMD0/CN58/RE0 (io), 94 PMD1/CN59/RE1 (io), 95 CN81/RG14 (io), 96 CN79/RG12 (io), 97 CN80/RG13 (io), 98 PMD2/CN60/RE2 (io), 99 PMD3/CN61/RE3 (io), 100 PMD4/CN62/RE4 (io)

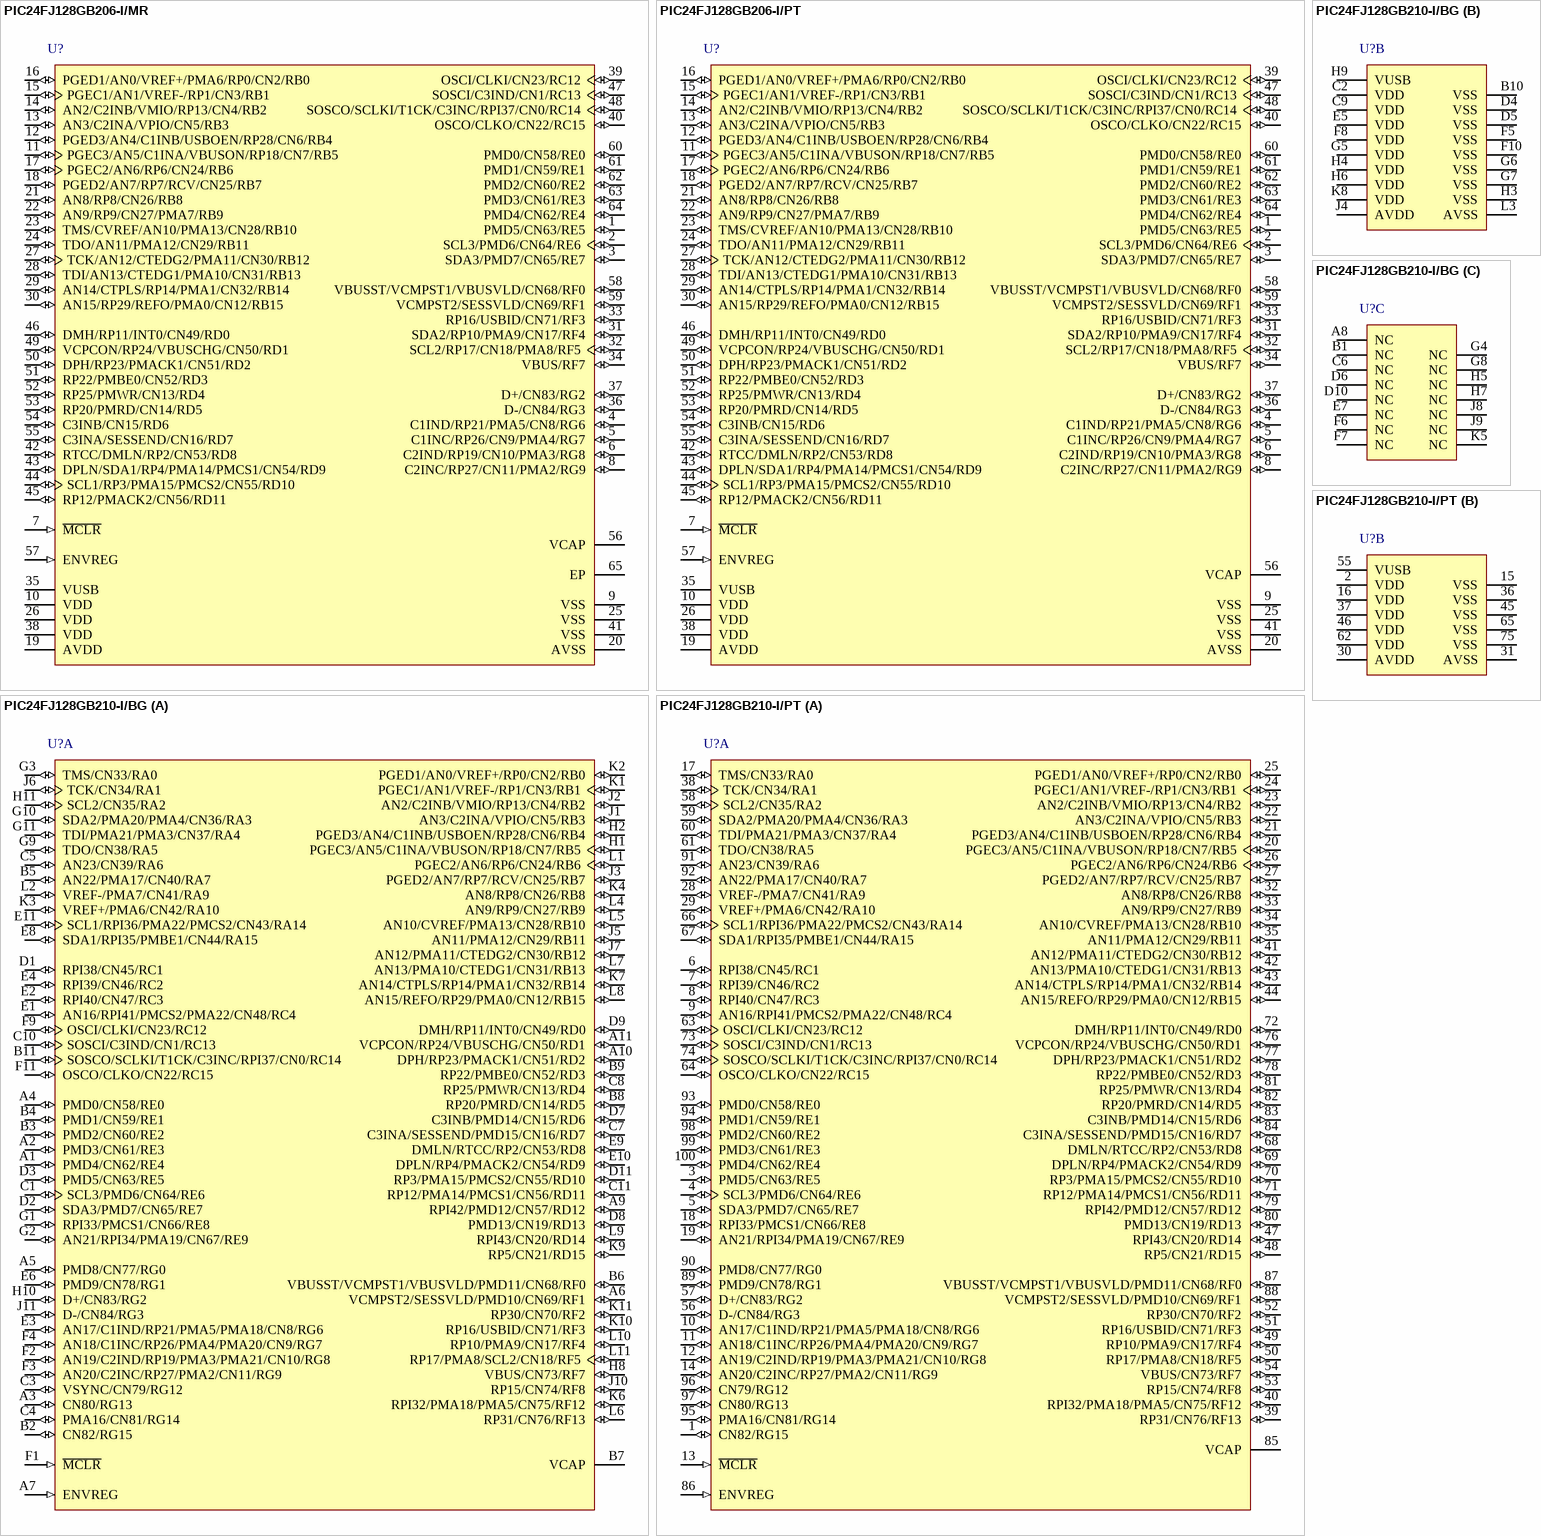
[diagram p83: symbols PIC24FJ128GB206-I/MR to PIC24FJ128GB210-I/PT]

## PIC24FJ128GB206-I/MR
designator U?
16-Bit Flash Microcontroller with USB On-The-Go, 16 MIPS, 52 I/O, EPMP, -40 to 85 degC, 64-pin QFN (MR64), Tube; Manufacturer: Microchip; PartNumber: PIC24FJ128GB206-I/MR; DatasheetVersion: Rev. A; PackageVersion: C04-149C; PackageReference: QFN-MR64; PackageDescription: 64-Lead Plastic Quad Flat, 9 x 9 mm Body, 0.5 mm Pitch; Supplier 1: Digi-Key; Supplier Part Number 1: PIC24FJ128GB206-I/MR-ND; Supplier 2: Farnell; Supplier Part Number 2: 1828974; Supplier 3: Newark; Supplier Part Number 3: 73R8638; Supplier 4: Mouser; Supplier Part Number 4: 579-PIC24FJ1GB206IMR; Mounting Technology: Surface Mount; ComponentLink1Description: Manufacturer URL; ComponentLink1URL: http://www.microchip.com; ComponentLink2Description: Datasheet; ComponentLink2URL: http://ww1.microchip.com/downloads/en/DeviceDoc/39969b.pdf; ComponentLink3Description: Package Specification; ComponentLink3URL: http://www.microchip.com/stellent/groups/techpub_sg/documents/packagingspec/en012702.pdf; ComponentLink4Description: Product URL; ComponentLink4URL: http://www.microchip.com/PIC24FJ128GB206
footprint MCHP-QFN-MR64-7275X7275TP_N (QFN, 64-Leads, Body 9x9mm, Pitch 0.5mm, Thermal Pad 7.275x7.275mm, IPC Medium Density)
footprint MCHP-QFN-MR64-7275X7275TP_L (QFN, 64-Leads, Body 9x9mm, Pitch 0.5mm, Thermal Pad 7.275x7.275mm, IPC High Density)
footprint MCHP-QFN-MR64-7275X7275TP_M (QFN, 64-Leads, Body 9x9mm, Pitch 0.5mm, Thermal Pad 7.275x7.275mm, IPC Low Density)
pins: 1 PMD5/CN63/RE5 (io), 2 SCL3/PMD6/CN64/RE6 (io), 3 SDA3/PMD7/CN65/RE7 (io), 4 C1IND/RP21/PMA5/CN8/RG6 (io), 5 C1INC/RP26/CN9/PMA4/RG7 (io), 6 C2IND/RP19/CN10/PMA3/RG8 (io), 7 ~{MCLR} (in) "Master Clear (Reset) input. This pin is an active-low Reset to the device.", 8 C2INC/RP27/CN11/PMA2/RG9 (io), 9 VSS (power) "Ground reference for logic and I/O pins.", 10 VDD (power) "Positive supply for peripheral logic and I/O pins.", 11 PGEC3/AN5/C1INA/VBUSON/RP18/CN7/RB5 (io), 12 PGED3/AN4/C1INB/USBOEN/RP28/CN6/RB4 (io), 13 AN3/C2INA/VPIO/CN5/RB3 (io), 14 AN2/C2INB/VMIO/RP13/CN4/RB2 (io), 15 PGEC1/AN1/VREF-/RP1/CN3/RB1 (io), 16 PGED1/AN0/VREF+/PMA6/RP0/CN2/RB0 (io), 17 PGEC2/AN6/RP6/CN24/RB6 (io), 18 PGED2/AN7/RP7/RCV/CN25/RB7 (io), 19 AVDD (power) "Positive supply for analog modules. This pin must be connected at all times.", 20 AVSS (power) "Ground reference for analog modules.", 21 AN8/RP8/CN26/RB8 (io), 22 AN9/RP9/CN27/PMA7/RB9 (io), 23 TMS/CVREF/AN10/PMA13/CN28/RB10 (io), 24 TDO/AN11/PMA12/CN29/RB11 (io), 25 VSS (power) "Positive supply for peripheral logic and I/O pins.", 26 VDD (power) "Ground reference for logic and I/O pins.", 27 TCK/AN12/CTEDG2/PMA11/CN30/RB12 (io), 28 TDI/AN13/CTEDG1/PMA10/CN31/RB13 (io), 29 AN14/CTPLS/RP14/PMA1/CN32/RB14 (io), 30 AN15/RP29/REFO/PMA0/CN12/RB15 (io), 31 SDA2/RP10/PMA9/CN17/RF4 (io), 32 SCL2/RP17/CN18/PMA8/RF5 (io), 33 RP16/USBID/CN71/RF3 (io), 34 VBUS/RF7 (io), 35 VUSB (power) "USB Voltage (3.3V).", 36 D-/CN84/RG3 (io), 37 D+/CN83/RG2 (io), 38 VDD (power) "Positive supply for peripheral logic and I/O pins.", 39 OSCI/CLKI/CN23/RC12 (io), 40 OSCO/CLKO/CN22/RC15 (io), 41 VSS (power) "Ground reference for logic and I/O pins.", 42 RTCC/DMLN/RP2/CN53/RD8 (io), 43 DPLN/SDA1/RP4/PMA14/PMCS1/CN54/RD9 (io), 44 SCL1/RP3/PMA15/PMCS2/CN55/RD10 (io), 45 RP12/PMACK2/CN56/RD11 (io), 46 DMH/RP11/INT0/CN49/RD0 (io), 47 SOSCI/C3IND/CN1/RC13 (io), 48 SOSCO/SCLKI/T1CK/C3INC/RPI37/CN0/RC14 (io), 49 VCPCON/RP24/VBUSCHG/CN50/RD1 (io), 50 DPH/RP23/PMACK1/CN51/RD2 (io), 51 RP22/PMBE0/CN52/RD3 (io), 52 RP25/PMWR/CN13/RD4 (io), 53 RP20/PMRD/CN14/RD5 (io), 54 C3INB/CN15/RD6 (io), 55 C3INA/SESSEND/CN16/RD7 (io), 56 VCAP "CPU logic filter capacitor connection.", 57 ENVREG (in) "Voltage Regulator Enable.", 58 VBUSST/VCMPST1/VBUSVLD/CN68/RF0 (io), 59 VCMPST2/SESSVLD/CN69/RF1 (io), 60 PMD0/CN58/RE0 (io), 61 PMD1/CN59/RE1 (io), 62 PMD2/CN60/RE2 (io), 63 PMD3/CN61/RE3 (io), 64 PMD4/CN62/RE4 (io), 65 EP (power)

## PIC24FJ128GB206-I/PT
designator U?
16-Bit Flash Microcontroller with USB On-The-Go, 16 MIPS, 52 I/O, EPMP, -40 to 85 degC, 64-pin TQFP (PT64), Tray; Manufacturer: Microchip; PartNumber: PIC24FJ128GB206-I/PT; DatasheetVersion: Rev. A; PackageVersion: C04-085B; PackageReference: TQFP-PT64; PackageDescription: 64-Lead Plastic Thin Quad FlatPack, 10 x 10 mm Body, 0.5 mm Pitch; Supplier 1: Digi-Key; Supplier Part Number 1: PIC24FJ128GB206-I/PT-ND; Supplier 2: Farnell; Supplier Part Number 2: 1823291MPKG; Supplier 3: Farnell; Supplier Part Number 3: 1823291; Supplier 4: Newark; Supplier Part Number 4: 73R8639; Supplier 5: Mouser; Supplier Part Number 5: 579-PIC24FJ1GB206IPT; Mounting Technology: Surface Mount; ComponentLink1Description: Manufacturer URL; ComponentLink1URL: http://www.microchip.com; ComponentLink2Description: Datasheet; ComponentLink2URL: http://ww1.microchip.com/downloads/en/DeviceDoc/39975a.pdf; ComponentLink3Description: Package Specification; ComponentLink3URL: http://www.microchip.com/stellent/groups/techpub_sg/documents/packagingspec/en012702.pdf; ComponentLink4Description: Product URL; ComponentLink4URL: http://www.microchip.com/PIC24FJ128GB206
footprint MCHP-TQFP-PT64_N (TQFP, 64-Leads, Body 10x10mm, Pitch 0.5mm, IPC Medium Density)
footprint MCHP-TQFP-PT64_L (TQFP, 64-Leads, Body 10x10mm, Pitch 0.5mm, IPC High Density)
footprint MCHP-TQFP-PT64_M (TQFP, 64-Leads, Body 10x10mm, Pitch 0.5mm, IPC Low Density)
pins: 1 PMD5/CN63/RE5 (io), 2 SCL3/PMD6/CN64/RE6 (io), 3 SDA3/PMD7/CN65/RE7 (io), 4 C1IND/RP21/PMA5/CN8/RG6 (io), 5 C1INC/RP26/CN9/PMA4/RG7 (io), 6 C2IND/RP19/CN10/PMA3/RG8 (io), 7 ~{MCLR} (in) "Master Clear (Reset) input. This pin is an active-low Reset to the device.", 8 C2INC/RP27/CN11/PMA2/RG9 (io), 9 VSS (power) "Ground reference for logic and I/O pins.", 10 VDD (power) "Positive supply for peripheral logic and I/O pins.", 11 PGEC3/AN5/C1INA/VBUSON/RP18/CN7/RB5 (io), 12 PGED3/AN4/C1INB/USBOEN/RP28/CN6/RB4 (io), 13 AN3/C2INA/VPIO/CN5/RB3 (io), 14 AN2/C2INB/VMIO/RP13/CN4/RB2 (io), 15 PGEC1/AN1/VREF-/RP1/CN3/RB1 (io), 16 PGED1/AN0/VREF+/PMA6/RP0/CN2/RB0 (io), 17 PGEC2/AN6/RP6/CN24/RB6 (io), 18 PGED2/AN7/RP7/RCV/CN25/RB7 (io), 19 AVDD (power) "Positive supply for analog modules. This pin must be connected at all times.", 20 AVSS (power) "Ground reference for analog modules.", 21 AN8/RP8/CN26/RB8 (io), 22 AN9/RP9/CN27/PMA7/RB9 (io), 23 TMS/CVREF/AN10/PMA13/CN28/RB10 (io), 24 TDO/AN11/PMA12/CN29/RB11 (io), 25 VSS (power) "Positive supply for peripheral logic and I/O pins.", 26 VDD (power) "Ground reference for logic and I/O pins.", 27 TCK/AN12/CTEDG2/PMA11/CN30/RB12 (io), 28 TDI/AN13/CTEDG1/PMA10/CN31/RB13 (io), 29 AN14/CTPLS/RP14/PMA1/CN32/RB14 (io), 30 AN15/RP29/REFO/PMA0/CN12/RB15 (io), 31 SDA2/RP10/PMA9/CN17/RF4 (io), 32 SCL2/RP17/CN18/PMA8/RF5 (io), 33 RP16/USBID/CN71/RF3 (io), 34 VBUS/RF7 (io), 35 VUSB (power) "USB Voltage (3.3V).", 36 D-/CN84/RG3 (io), 37 D+/CN83/RG2 (io), 38 VDD (power) "Positive supply for peripheral logic and I/O pins.", 39 OSCI/CLKI/CN23/RC12 (io), 40 OSCO/CLKO/CN22/RC15 (io), 41 VSS (power) "Ground reference for logic and I/O pins.", 42 RTCC/DMLN/RP2/CN53/RD8 (io), 43 DPLN/SDA1/RP4/PMA14/PMCS1/CN54/RD9 (io), 44 SCL1/RP3/PMA15/PMCS2/CN55/RD10 (io), 45 RP12/PMACK2/CN56/RD11 (io), 46 DMH/RP11/INT0/CN49/RD0 (io), 47 SOSCI/C3IND/CN1/RC13 (io), 48 SOSCO/SCLKI/T1CK/C3INC/RPI37/CN0/RC14 (io), 49 VCPCON/RP24/VBUSCHG/CN50/RD1 (io), 50 DPH/RP23/PMACK1/CN51/RD2 (io), 51 RP22/PMBE0/CN52/RD3 (io), 52 RP25/PMWR/CN13/RD4 (io), 53 RP20/PMRD/CN14/RD5 (io), 54 C3INB/CN15/RD6 (io), 55 C3INA/SESSEND/CN16/RD7 (io), 56 VCAP "CPU logic filter capacitor connection.", 57 ENVREG (in) "Voltage Regulator Enable.", 58 VBUSST/VCMPST1/VBUSVLD/CN68/RF0 (io), 59 VCMPST2/SESSVLD/CN69/RF1 (io), 60 PMD0/CN58/RE0 (io), 61 PMD1/CN59/RE1 (io), 62 PMD2/CN60/RE2 (io), 63 PMD3/CN61/RE3 (io), 64 PMD4/CN62/RE4 (io)

## PIC24FJ128GB210-I/BG
designator U?
16-Bit Flash Microcontroller with USB On-The-Go, 16 MIPS, 84 I/O, EPMP, -40 to 85 degC, 121-pin TFBGA (BG121), Tray; Manufacturer: Microchip; PartNumber: PIC24FJ128GB210-I/BG; DatasheetVersion: Rev. A; PackageVersion: C04-148D; PackageReference: TFBGA-BG121; PackageDescription: 121-Ball Plastic Thin Profile Ball Grid Array, 10 x 10 mm Body, 0.8 mm Pitch; Supplier 1: Digi-Key; Supplier Part Number 1: PIC24FJ128GB210-I/BG-ND; Supplier 2: Farnell; Supplier Part Number 2: 1823281; Supplier 3: Mouser; Supplier Part Number 3: 579-PIC24FJ128GB0IBG; Mounting Technology: Surface Mount; ComponentLink1Description: Manufacturer URL; ComponentLink1URL: http://www.microchip.com; ComponentLink2Description: Datasheet; ComponentLink2URL: http://ww1.microchip.com/downloads/en/DeviceDoc/39975a.pdf; ComponentLink3Description: Package Specification; ComponentLink3URL: http://www.microchip.com/stellent/groups/techpub_sg/documents/packagingspec/en012702.pdf; ComponentLink4Description: Product URL; ComponentLink4URL: http://www.microchip.com/PIC24FJ128GB210
footprint MCHP-TFBGA-BG121 (BGA, 121-Balls, Body 10x10mm, Pitch 0.8mm)
part A pins: A1  PMD4/CN62/RE4 (io), A2  PMD3/CN61/RE3 (io), A3  CN80/RG13 (io), A4  PMD0/CN58/RE0 (io), A5  PMD8/CN77/RG0 (io), A6  VCMPST2/SESSVLD/PMD10/CN69/RF1 (io), A7  ENVREG (in) "Voltage Regulator Enable.", A9  RPI42/PMD12/CN57/RD12 (io), A10  DPH/RP23/PMACK1/CN51/RD2 (io), A11  VCPCON/RP24/VBUSCHG/CN50/RD1 (io), B2  CN82/RG15 (io), B3  PMD2/CN60/RE2 (io), B4  PMD1/CN59/RE1 (io), B5  AN22/PMA17/CN40/RA7 (io), B6  VBUSST/VCMPST1/VBUSVLD/PMD11/CN68/RF0 (io), B7  VCAP "External Filter Capacitor Connection (regulator enabled).", B8  RP20/PMRD/CN14/RD5 (io), B9  RP22/PMBE0/CN52/RD3 (io), B11  SOSCO/SCLKI/T1CK/C3INC/RPI37/CN0/RC14 (io), C1  SCL3/PMD6/CN64/RE6 (io), C3  VSYNC/CN79/RG12 (io), C4  PMA16/CN81/RG14 (io), C5  AN23/CN39/RA6 (io), C7  C3INA/SESSEND/PMD15/CN16/RD7 (io), C8  RP25/PMWR/CN13/RD4 (io), C10  SOSCI/C3IND/CN1/RC13 (io), C11  RP12/PMA14/PMCS1/CN56/RD11 (io), D1  RPI38/CN45/RC1 (io), D2  SDA3/PMD7/CN65/RE7 (io), D3  PMD5/CN63/RE5 (io), D7  C3INB/PMD14/CN15/RD6 (io), D8  PMD13/CN19/RD13 (io), D9  DMH/RP11/INT0/CN49/RD0 (io), D11  RP3/PMA15/PMCS2/CN55/RD10 (io), E1  AN16/RPI41/PMCS2/PMA22/CN48/RC4 (io), E2  RPI40/CN47/RC3 (io), E3  AN17/C1IND/RP21/PMA5/PMA18/CN8/RG6 (io), E4  RPI39/CN46/RC2 (io), E6  PMD9/CN78/RG1 (io), E8  SDA1/RPI35/PMBE1/CN44/RA15 (io), E9  DMLN/RTCC/RP2/CN53/RD8 (io), E10  DPLN/RP4/PMACK2/CN54/RD9 (io), E11  SCL1/RPI36/PMA22/PMCS2/CN43/RA14 (io), F1 ~{MCLR} (in) "Master Clear (device Reset) Input. This line is brought low to cause a Reset.", F2  AN19/C2IND/RP19/PMA3/PMA21/CN10/RG8 (io), F3  AN20/C2INC/RP27/PMA2/CN11/RG9 (io), F4  AN18/C1INC/RP26/PMA4/PMA20/CN9/RG7 (io), F9  OSCI/CLKI/CN23/RC12 (io), F11  OSCO/CLKO/CN22/RC15 (io), G1  RPI33/PMCS1/CN66/RE8 (io), G2  AN21/RPI34/PMA19/CN67/RE9 (io), G3  TMS/CN33/RA0 (io), G9  TDO/CN38/RA5 (io), G10  SDA2/PMA20/PMA4/CN36/RA3 (io), G11  TDI/PMA21/PMA3/CN37/RA4 (io), H1  PGEC3/AN5/C1INA/VBUSON/RP18/CN7/RB5 (io), H2  PGED3/AN4/C1INB/USBOEN/RP28/CN6/RB4 (io), H8  VBUS/CN73/RF7 (io), H10  D+/CN83/RG2 (io), H11  SCL2/CN35/RA2 (io), J1  AN3/C2INA/VPIO/CN5/RB3 (io), J2  AN2/C2INB/VMIO/RP13/CN4/RB2 (io), J3  PGED2/AN7/RP7/RCV/CN25/RB7 (io), J5  AN11/PMA12/CN29/RB11 (io), J6  TCK/CN34/RA1 (io), J7  AN12/PMA11/CTEDG2/CN30/RB12 (io), J10  RP15/CN74/RF8 (io), J11  D-/CN84/RG3 (io), K1  PGEC1/AN1/VREF-/RP1/CN3/RB1 (io), K2  PGED1/AN0/VREF+/RP0/CN2/RB0 (io), K3  VREF+/PMA6/CN42/RA10 (io), K4  AN8/RP8/CN26/RB8 (io), K6  RPI32/PMA18/PMA5/CN75/RF12 (io), K7  AN14/CTPLS/RP14/PMA1/CN32/RB14 (io), K9  RP5/CN21/RD15 (io), K10  RP16/USBID/CN71/RF3 (io), K11  RP30/CN70/RF2 (io), L1  PGEC2/AN6/RP6/CN24/RB6 (io), L2  VREF-/PMA7/CN41/RA9 (io), L4  AN9/RP9/CN27/RB9 (io), L5  AN10/CVREF/PMA13/CN28/RB10 (io), L6  RP31/CN76/RF13 (io), L7  AN13/PMA10/CTEDG1/CN31/RB13 (io), L8  AN15/REFO/RP29/PMA0/CN12/RB15 (io), L9  RPI43/CN20/RD14 (io), L10  RP10/PMA9/CN17/RF4 (io), L11  RP17/PMA8/SCL2/CN18/RF5 (io)
part B pins: B10  VSS (power) "Ground Reference for Logic and I/O Pins.", C2  VDD (power) "Positive Supply for Peripheral Digital Logic and I/O Pins.", C9  VDD (power) "Positive Supply for Peripheral Digital Logic and I/O Pins.", D4  VSS "Ground Reference for Logic and I/O Pins.", D5  VSS "Ground Reference for Logic and I/O Pins.", E5  VDD (power) "Positive Supply for Peripheral Digital Logic and I/O Pins.", F5  VSS "Ground Reference for Logic and I/O Pins.", F8  VDD (power) "Positive Supply for Peripheral Digital Logic and I/O Pins.", F10  VSS "Ground Reference for Logic and I/O Pins.", G5  VDD (power) "Positive Supply for Peripheral Digital Logic and I/O Pins.", G6  VSS "Ground Reference for Logic and I/O Pins.", G7  VSS "Ground Reference for Logic and I/O Pins.", H3  VSS "Ground Reference for Logic and I/O Pins.", H4  VDD (power) "Positive Supply for Peripheral Digital Logic and I/O Pins.", H6  VDD (power) "Positive Supply for Peripheral Digital Logic and I/O Pins.", H9  VUSB (power) "USB Voltage (3.3V).", J4  AVDD (power) "Positive Supply for Analog modules.", K8  VDD (power) "Positive Supply for Peripheral Digital Logic and I/O Pins.", L3  AVSS "Ground Reference for Analog modules"
part C pins: A8  NC, B1  NC, C6  NC, D6  NC, D10  NC, E7  NC, F6  NC, F7  NC, G4  NC, G8  NC, H5  NC, H7  NC, J8  NC, J9  NC, K5  NC

## PIC24FJ128GB210-I/PT
designator U?
16-Bit Flash Microcontroller with USB On-The-Go, 16 MIPS, 84 I/O, EPMP, -40 to 85 degC, 100-pin TQFP (PT100), Tray; Manufacturer: Microchip; PartNumber: PIC24FJ128GB210-I/PT; DatasheetVersion: Rev. A; PackageVersion: C04-100B; PackageReference: TQFP-PT100; PackageDescription: 100-Lead Plastic Thin Quad Flatpack, 12 x 12 mm Body, 0.4 mm Pitch; Supplier 1: Digi-Key; Supplier Part Number 1: PIC24FJ128GB210-I/PT-ND; Supplier 2: Newark; Supplier Part Number 2: 73R8643; Supplier 3: Mouser; Supplier Part Number 3: 579-PIC24FJ128GB0IPT; Mounting Technology: Surface Mount; ComponentLink1Description: Manufacturer URL; ComponentLink1URL: http://www.microchip.com; ComponentLink2Description: Datasheet; ComponentLink2URL: http://ww1.microchip.com/downloads/en/DeviceDoc/39975a.pdf; ComponentLink3Description: Package Specification; ComponentLink3URL: http://www.microchip.com/stellent/groups/techpub_sg/documents/packagingspec/en012702.pdf; ComponentLink4Description: Product URL; ComponentLink4URL: http://www.microchip.com/PIC24FJ128GB210
footprint MCHP-TQFP-PT100_N (QFP, 100-Leads, Body 12x12mm, Pitch 0.4mm, IPC Medium Density)
footprint MCHP-TQFP-PT100_L (QFP, 100-Leads, Body 12x12mm, Pitch 0.4mm, IPC High Density)
footprint MCHP-TQFP-PT100_M (TQFP, 100-Leads, Body 12x12mm, Pitch 0.4mm, IPC Low Density)
part A pins: 1 CN82/RG15 (io), 3 PMD5/CN63/RE5 (io), 4 SCL3/PMD6/CN64/RE6 (io), 5 SDA3/PMD7/CN65/RE7 (io), 6 RPI38/CN45/RC1 (io), 7 RPI39/CN46/RC2 (io), 8 RPI40/CN47/RC3 (io), 9 AN16/RPI41/PMCS2/PMA22/CN48/RC4 (io), 10 AN17/C1IND/RP21/PMA5/PMA18/CN8/RG6 (io), 11 AN18/C1INC/RP26/PMA4/PMA20/CN9/RG7 (io), 12 AN19/C2IND/RP19/PMA3/PMA21/CN10/RG8 (io), 13 ~{MCLR} (in) "Master Clear (device Reset) Input. This line is brought low to cause a Reset.", 14 AN20/C2INC/RP27/PMA2/CN11/RG9 (io), 17 TMS/CN33/RA0 (io), 18 RPI33/PMCS1/CN66/RE8 (io), 19 AN21/RPI34/PMA19/CN67/RE9 (io), 20 PGEC3/AN5/C1INA/VBUSON/RP18/CN7/RB5 (io), 21 PGED3/AN4/C1INB/USBOEN/RP28/CN6/RB4 (io), 22 AN3/C2INA/VPIO/CN5/RB3 (io), 23 AN2/C2INB/VMIO/RP13/CN4/RB2 (io), 24 PGEC1/AN1/VREF-/RP1/CN3/RB1 (io), 25 PGED1/AN0/VREF+/RP0/CN2/RB0 (io), 26 PGEC2/AN6/RP6/CN24/RB6 (io), 27 PGED2/AN7/RP7/RCV/CN25/RB7 (io), 28 VREF-/PMA7/CN41/RA9 (io), 29 VREF+/PMA6/CN42/RA10 (io), 32 AN8/RP8/CN26/RB8 (io), 33 AN9/RP9/CN27/RB9 (io), 34 AN10/CVREF/PMA13/CN28/RB10 (io), 35 AN11/PMA12/CN29/RB11 (io), 38 TCK/CN34/RA1 (io), 39 RP31/CN76/RF13 (io), 40 RPI32/PMA18/PMA5/CN75/RF12 (io), 41 AN12/PMA11/CTEDG2/CN30/RB12 (io), 42 AN13/PMA10/CTEDG1/CN31/RB13 (io), 43 AN14/CTPLS/RP14/PMA1/CN32/RB14 (io), 44 AN15/REFO/RP29/PMA0/CN12/RB15 (io), 47 RPI43/CN20/RD14 (io), 48 RP5/CN21/RD15 (io), 49 RP10/PMA9/CN17/RF4 (io), 50 RP17/PMA8/CN18/RF5 (io), 51 RP16/USBID/CN71/RF3 (io), 52 RP30/CN70/RF2 (io), 53 RP15/CN74/RF8 (io), 54 VBUS/CN73/RF7 (io), 56 D-/CN84/RG3 (io), 57 D+/CN83/RG2 (io), 58 SCL2/CN35/RA2 (io), 59 SDA2/PMA20/PMA4/CN36/RA3 (io), 60 TDI/PMA21/PMA3/CN37/RA4 (io), 61 TDO/CN38/RA5 (io), 63 OSCI/CLKI/CN23/RC12 (io), 64 OSCO/CLKO/CN22/RC15 (io), 66 SCL1/RPI36/PMA22/PMCS2/CN43/RA14 (io), 67 SDA1/RPI35/PMBE1/CN44/RA15 (io), 68 DMLN/RTCC/RP2/CN53/RD8 (io), 69 DPLN/RP4/PMACK2/CN54/RD9 (io), 70 RP3/PMA15/PMCS2/CN55/RD10 (io), 71 RP12/PMA14/PMCS1/CN56/RD11 (io), 72 DMH/RP11/INT0/CN49/RD0 (io), 73 SOSCI/C3IND/CN1/RC13 (io), 74 SOSCO/SCLKI/T1CK/C3INC/RPI37/CN0/RC14 (io), 76 VCPCON/RP24/VBUSCHG/CN50/RD1 (io), 77 DPH/RP23/PMACK1/CN51/RD2 (io), 78 RP22/PMBE0/CN52/RD3 (io), 79 RPI42/PMD12/CN57/RD12 (io), 80 PMD13/CN19/RD13 (io), 81 RP25/PMWR/CN13/RD4 (io), 82 RP20/PMRD/CN14/RD5 (io), 83 C3INB/PMD14/CN15/RD6 (io), 84 C3INA/SESSEND/PMD15/CN16/RD7 (io), 85 VCAP "External Filter Capacitor Connection (regulator enabled).", 86 ENVREG (in) "Voltage Regulator Enable.", 87 VBUSST/VCMPST1/VBUSVLD/PMD11/CN68/RF0 (io), 88 VCMPST2/SESSVLD/PMD10/CN69/RF1 (io), 89 PMD9/CN78/RG1 (io), 90 PMD8/CN77/RG0 (io), 91 AN23/CN39/RA6 (io), 92 AN22/PMA17/CN40/RA7 (io), 93 PMD0/CN58/RE0 (io), 94 PMD1/CN59/RE1 (io), 95 PMA16/CN81/RG14 (io), 96 CN79/RG12 (io), 97 CN80/RG13 (io), 98 PMD2/CN60/RE2 (io), 99 PMD3/CN61/RE3 (io), 100 PMD4/CN62/RE4 (io)
part B pins: 2 VDD (power) "Positive Supply for Peripheral Digital Logic and I/O Pins", 15 VSS "Ground Reference for Logic and I/O Pins.", 16 VDD (power) "Positive Supply for Peripheral Digital Logic and I/O Pins", 30 AVDD (power) "Positive Supply for Analog modules.", 31 AVSS "Ground Reference for Analog modules", 36 VSS "Ground Reference for Logic and I/O Pins.", 37 VDD (power) "Positive Supply for Peripheral Digital Logic and I/O Pins", 45 VSS "Ground Reference for Logic and I/O Pins.", 46 VDD (power) "Positive Supply for Peripheral Digital Logic and I/O Pins", 55 VUSB (power) "USB Voltage (3.3V).", 62 VDD (power) "Positive Supply for Peripheral Digital Logic and I/O Pins", 65 VSS "Ground Reference for Logic and I/O Pins.", 75 VSS "Ground Reference for Logic and I/O Pins."

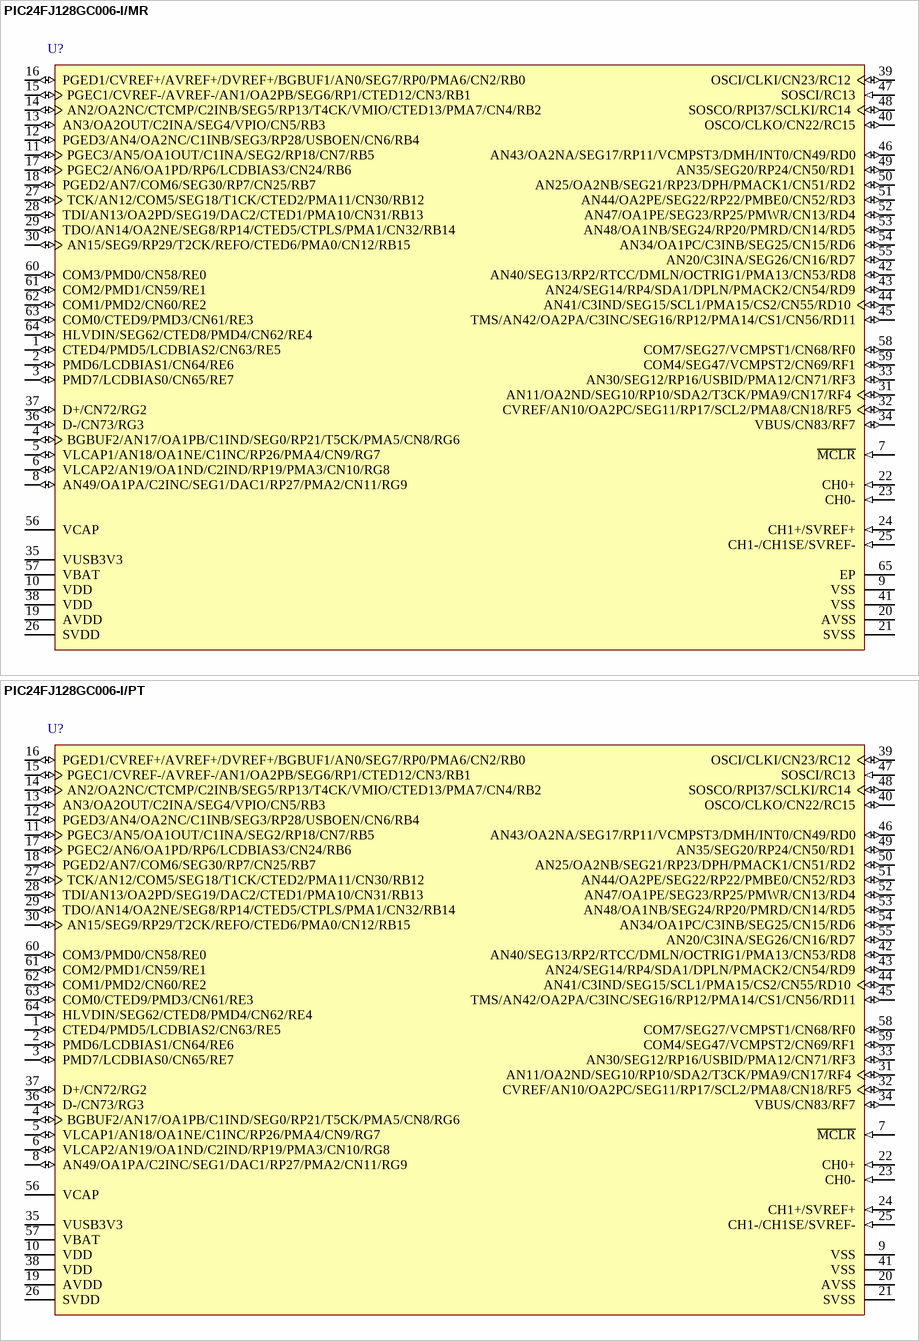
[diagram p84: symbols PIC24FJ128GC006-I/MR to PIC24FJ128GC006-I/PT]

## PIC24FJ128GC006-I/MR
designator U?
16-Bit Flash Microcontrollers with 12-Bit Pipeline A/D, Sigma-Delta A/D, USB On-The-Go and XLP Technology, 64 KB Flash, 8 KB RAM, Industrial Temperature, 64-Pin QFN (MR64), Tube; Manufacturer: Microchip; PartNumber: PIC24FJ128GC006-I/MR; VCC Range: 2.0 to 3.6 V; DatasheetVersion: Rev. B; PackageVersion: C04-149C; PackageReference: QFN-MR64; PackageDescription: 64-Lead Plastic Quad Flat, No Lead Package, 9 x 9 mm Body, 0.5 mm Pitch; Supplier 1: Digi-Key; Supplier Part Number 1: PIC24FJ128GC006-I/MR-ND; Supplier 2: Farnell; Supplier Part Number 2: 2355354; Supplier 3: Newark; Supplier Part Number 3: 07X1935; Supplier 4: Newark; Supplier Part Number 4: 94T7606; Supplier 5: Mouser; Supplier Part Number 5: 579-P24FJ128GC006IMR; Packing: Tube; Mounting Technology: Surface Mount; ComponentLink1Description: Manufacturer URL; ComponentLink1URL: http://www.microchip.com/; ComponentLink2Description: Datasheet; ComponentLink2URL: http://ww1.microchip.com/downloads/en/DeviceDoc/30009312b.pdf; ComponentLink3Description: Package Specification; ComponentLink3URL: http://ww1.microchip.com/downloads/en/DeviceDoc/60001191B.pdf
footprint MCHP-QFN-MR64-7150X7150TP_V (QFN, 64-Leads, Body 9x9mm, Pitch 0.5mm, Thermal Pad 7.15X7.15mm)
pins: 1 CTED4/PMD5/LCDBIAS2/CN63/RE5 (io), 2 PMD6/LCDBIAS1/CN64/RE6 (io), 3 PMD7/LCDBIAS0/CN65/RE7 (io), 4 BGBUF2/AN17/OA1PB/C1IND/SEG0/RP21/T5CK/PMA5/CN8/RG6 (io), 5 VLCAP1/AN18/OA1NE/C1INC/RP26/PMA4/CN9/RG7 (io), 6 VLCAP2/AN19/OA1ND/C2IND/RP19/PMA3/CN10/RG8 (io), 7 ~{MCLR} (in) "Master Clear (device Reset) Input. This line is brought Master Clear (device Reset) Input. This line is brought low to cause a Reset.", 8 AN49/OA1PA/C2INC/SEG1/DAC1/RP27/PMA2/CN11/RG9 (io), 9 VSS (power) "Ground Reference for Logic and I/O Pins.", 10 VDD (power) "Positive Supply for Peripheral Digital Logic and I/O Pins.", 11 PGEC3/AN5/OA1OUT/C1INA/SEG2/RP18/CN7/RB5 (io), 12 PGED3/AN4/OA2NC/C1INB/SEG3/RP28/USBOEN/CN6/RB4 (io), 13 AN3/OA2OUT/C2INA/SEG4/VPIO/CN5/RB3 (io), 14 AN2/OA2NC/CTCMP/C2INB/SEG5/RP13/T4CK/VMIO/CTED13/PMA7/CN4/RB2 (io), 15 PGEC1/CVREF-/AVREF-/AN1/OA2PB/SEG6/RP1/CTED12/CN3/RB1 (io), 16 PGED1/CVREF+/AVREF+/DVREF+/BGBUF1/AN0/SEG7/RP0/PMA6/CN2/RB0 (io), 17 PGEC2/AN6/OA1PD/RP6/LCDBIAS3/CN24/RB6 (io), 18 PGED2/AN7/COM6/SEG30/RP7/CN25/RB7 (io), 19 AVDD (power) "Positive Supply for Analog modules", 20 AVSS (power) "Ground Reference for Analog modules", 21 SVSS (power) "Ground Reference for Sigma-Delta A/D Converter.", 22 CH0+ (in) "Sigma-Delta A/D Converter Channel 0 Non-Inverting Analog Input", 23 CH0- (in) "Sigma-Delta A/D Converter Channel 0 Inverting Analog Input.", 24 CH1+/SVREF+ (in), 25 CH1-/CH1SE/SVREF- (in), 26 SVDD (power) "Positive Supply for Sigma-Delta A/D Converter", 27 TCK/AN12/COM5/SEG18/T1CK/CTED2/PMA11/CN30/RB12 (io), 28 TDI/AN13/OA2PD/SEG19/DAC2/CTED1/PMA10/CN31/RB13 (io), 29 TDO/AN14/OA2NE/SEG8/RP14/CTED5/CTPLS/PMA1/CN32/RB14 (io), 30 AN15/SEG9/RP29/T2CK/REFO/CTED6/PMA0/CN12/RB15 (io), 31 AN11/OA2ND/SEG10/RP10/SDA2/T3CK/PMA9/CN17/RF4 (io), 32 CVREF/AN10/OA2PC/SEG11/RP17/SCL2/PMA8/CN18/RF5 (io), 33 AN30/SEG12/RP16/USBID/PMA12/CN71/RF3 (io), 34 VBUS/CN83/RF7 (io), 35 VUSB3V3 (power) "USB Transceiver Power Input Voltage (3.3V nominal)", 36 D-/CN73/RG3 (io), 37 D+/CN72/RG2 (io), 38 VDD (power) "Positive Supply for Peripheral Digital Logic and I/O Pins.", 39 OSCI/CLKI/CN23/RC12 (io), 40 OSCO/CLKO/CN22/RC15 (io), 41 VSS (power) "Ground Reference for Logic and I/O Pins.", 42 AN40/SEG13/RP2/RTCC/DMLN/OCTRIG1/PMA13/CN53/RD8 (io), 43 AN24/SEG14/RP4/SDA1/DPLN/PMACK2/CN54/RD9 (io), 44 AN41/C3IND/SEG15/SCL1/PMA15/CS2/CN55/RD10 (io), 45 TMS/AN42/OA2PA/C3INC/SEG16/RP12/PMA14/CS1/CN56/RD11 (io), 46 AN43/OA2NA/SEG17/RP11/VCMPST3/DMH/INT0/CN49/RD0 (io), 47 SOSCI/RC13 (in), 48 SOSCO/RPI37/SCLKI/RC14 (io), 49 AN35/SEG20/RP24/CN50/RD1 (io), 50 AN25/OA2NB/SEG21/RP23/DPH/PMACK1/CN51/RD2 (io), 51 AN44/OA2PE/SEG22/RP22/PMBE0/CN52/RD3 (io), 52 AN47/OA1PE/SEG23/RP25/PMWR/CN13/RD4 (io), 53 AN48/OA1NB/SEG24/RP20/PMRD/CN14/RD5 (io), 54 AN34/OA1PC/C3INB/SEG25/CN15/RD6 (io), 55 AN20/C3INA/SEG26/CN16/RD7 (io), 56 VCAP "External Filter Capacitor Connection.", 57 VBAT (power) "Backup Battery (B+) Input", 58 COM7/SEG27/VCMPST1/CN68/RF0 (io), 59 COM4/SEG47/VCMPST2/CN69/RF1 (io), 60 COM3/PMD0/CN58/RE0 (io), 61 COM2/PMD1/CN59/RE1 (io), 62 COM1/PMD2/CN60/RE2 (io), 63 COM0/CTED9/PMD3/CN61/RE3 (io), 64 HLVDIN/SEG62/CTED8/PMD4/CN62/RE4 (io), 65 EP (power)

## PIC24FJ128GC006-I/PT
designator U?
16-Bit Flash Microcontrollers with 12-Bit Pipeline A/D, Sigma-Delta A/D, USB On-The-Go and XLP Technology, 64 KB Flash, 8 KB RAM, Industrial Temperature, 64-Pin TQFP (PT64), Tray; Manufacturer: Microchip; PartNumber: PIC24FJ128GC006-I/PT; VCC Range: 2.0 to 3.6 V; DatasheetVersion: Rev. B; PackageVersion: C04-085B, 12/2012; PackageReference: TQFP-PT64; PackageDescription: 64-Lead Plastic Thin Quad FlatPack, 10 x 10 mm Body, 0.5 mm Pitch; Supplier 1: Digi-Key; Supplier Part Number 1: PIC24FJ128GC006-I/PT-ND; Supplier 2: Farnell; Supplier Part Number 2: 2355355; Supplier 3: Newark; Supplier Part Number 3: 07X1936; Supplier 4: Newark; Supplier Part Number 4: 94T7607; Supplier 5: Mouser; Supplier Part Number 5: 579-P24FJ128GC006IPT; Packing: Tray; Mounting Technology: Surface Mount; ComponentLink1Description: Manufacturer URL; ComponentLink1URL: http://www.microchip.com/; ComponentLink2Description: Datasheet; ComponentLink2URL: http://ww1.microchip.com/downloads/en/DeviceDoc/30009312b.pdf; ComponentLink3Description: Package Specification; ComponentLink3URL: http://www.microchip.com/stellent/groups/techpub_sg/documents/packagingspec/en012702.pdf
footprint MCHP-TQFP-PT64_N (TQFP, 64-Leads, Body 10x10mm, Pitch 0.5mm, IPC Medium Density)
footprint MCHP-TQFP-PT64_L (TQFP, 64-Leads, Body 10x10mm, Pitch 0.5mm, IPC High Density)
footprint MCHP-TQFP-PT64_M (TQFP, 64-Leads, Body 10x10mm, Pitch 0.5mm, IPC Low Density)
pins: 1 CTED4/PMD5/LCDBIAS2/CN63/RE5 (io), 2 PMD6/LCDBIAS1/CN64/RE6 (io), 3 PMD7/LCDBIAS0/CN65/RE7 (io), 4 BGBUF2/AN17/OA1PB/C1IND/SEG0/RP21/T5CK/PMA5/CN8/RG6 (io), 5 VLCAP1/AN18/OA1NE/C1INC/RP26/PMA4/CN9/RG7 (io), 6 VLCAP2/AN19/OA1ND/C2IND/RP19/PMA3/CN10/RG8 (io), 7 ~{MCLR} (in) "Master Clear (device Reset) Input. This line is brought Master Clear (device Reset) Input. This line is brought low to cause a Reset.", 8 AN49/OA1PA/C2INC/SEG1/DAC1/RP27/PMA2/CN11/RG9 (io), 9 VSS (power) "Ground Reference for Logic and I/O Pins.", 10 VDD (power) "Positive Supply for Peripheral Digital Logic and I/O Pins.", 11 PGEC3/AN5/OA1OUT/C1INA/SEG2/RP18/CN7/RB5 (io), 12 PGED3/AN4/OA2NC/C1INB/SEG3/RP28/USBOEN/CN6/RB4 (io), 13 AN3/OA2OUT/C2INA/SEG4/VPIO/CN5/RB3 (io), 14 AN2/OA2NC/CTCMP/C2INB/SEG5/RP13/T4CK/VMIO/CTED13/PMA7/CN4/RB2 (io), 15 PGEC1/CVREF-/AVREF-/AN1/OA2PB/SEG6/RP1/CTED12/CN3/RB1 (io), 16 PGED1/CVREF+/AVREF+/DVREF+/BGBUF1/AN0/SEG7/RP0/PMA6/CN2/RB0 (io), 17 PGEC2/AN6/OA1PD/RP6/LCDBIAS3/CN24/RB6 (io), 18 PGED2/AN7/COM6/SEG30/RP7/CN25/RB7 (io), 19 AVDD (power) "Positive Supply for Analog modules", 20 AVSS (power) "Ground Reference for Analog modules", 21 SVSS (power) "Ground Reference for Sigma-Delta A/D Converter.", 22 CH0+ (in) "Sigma-Delta A/D Converter Channel 0 Non-Inverting Analog Input", 23 CH0- (in) "Sigma-Delta A/D Converter Channel 0 Inverting Analog Input.", 24 CH1+/SVREF+ (in), 25 CH1-/CH1SE/SVREF- (in), 26 SVDD (power) "Positive Supply for Sigma-Delta A/D Converter", 27 TCK/AN12/COM5/SEG18/T1CK/CTED2/PMA11/CN30/RB12 (io), 28 TDI/AN13/OA2PD/SEG19/DAC2/CTED1/PMA10/CN31/RB13 (io), 29 TDO/AN14/OA2NE/SEG8/RP14/CTED5/CTPLS/PMA1/CN32/RB14 (io), 30 AN15/SEG9/RP29/T2CK/REFO/CTED6/PMA0/CN12/RB15 (io), 31 AN11/OA2ND/SEG10/RP10/SDA2/T3CK/PMA9/CN17/RF4 (io), 32 CVREF/AN10/OA2PC/SEG11/RP17/SCL2/PMA8/CN18/RF5 (io), 33 AN30/SEG12/RP16/USBID/PMA12/CN71/RF3 (io), 34 VBUS/CN83/RF7 (io), 35 VUSB3V3 (power) "USB Transceiver Power Input Voltage (3.3V nominal)", 36 D-/CN73/RG3 (io), 37 D+/CN72/RG2 (io), 38 VDD (power) "Positive Supply for Peripheral Digital Logic and I/O Pins.", 39 OSCI/CLKI/CN23/RC12 (io), 40 OSCO/CLKO/CN22/RC15 (io), 41 VSS (power) "Ground Reference for Logic and I/O Pins.", 42 AN40/SEG13/RP2/RTCC/DMLN/OCTRIG1/PMA13/CN53/RD8 (io), 43 AN24/SEG14/RP4/SDA1/DPLN/PMACK2/CN54/RD9 (io), 44 AN41/C3IND/SEG15/SCL1/PMA15/CS2/CN55/RD10 (io), 45 TMS/AN42/OA2PA/C3INC/SEG16/RP12/PMA14/CS1/CN56/RD11 (io), 46 AN43/OA2NA/SEG17/RP11/VCMPST3/DMH/INT0/CN49/RD0 (io), 47 SOSCI/RC13 (in), 48 SOSCO/RPI37/SCLKI/RC14 (io), 49 AN35/SEG20/RP24/CN50/RD1 (io), 50 AN25/OA2NB/SEG21/RP23/DPH/PMACK1/CN51/RD2 (io), 51 AN44/OA2PE/SEG22/RP22/PMBE0/CN52/RD3 (io), 52 AN47/OA1PE/SEG23/RP25/PMWR/CN13/RD4 (io), 53 AN48/OA1NB/SEG24/RP20/PMRD/CN14/RD5 (io), 54 AN34/OA1PC/C3INB/SEG25/CN15/RD6 (io), 55 AN20/C3INA/SEG26/CN16/RD7 (io), 56 VCAP "External Filter Capacitor Connection.", 57 VBAT (power) "Backup Battery (B+) Input", 58 COM7/SEG27/VCMPST1/CN68/RF0 (io), 59 COM4/SEG47/VCMPST2/CN69/RF1 (io), 60 COM3/PMD0/CN58/RE0 (io), 61 COM2/PMD1/CN59/RE1 (io), 62 COM1/PMD2/CN60/RE2 (io), 63 COM0/CTED9/PMD3/CN61/RE3 (io), 64 HLVDIN/SEG62/CTED8/PMD4/CN62/RE4 (io)